# Altium integrated library Lattice CPLD ispMACH.IntLib: 663 symbols (part 29 of 48)
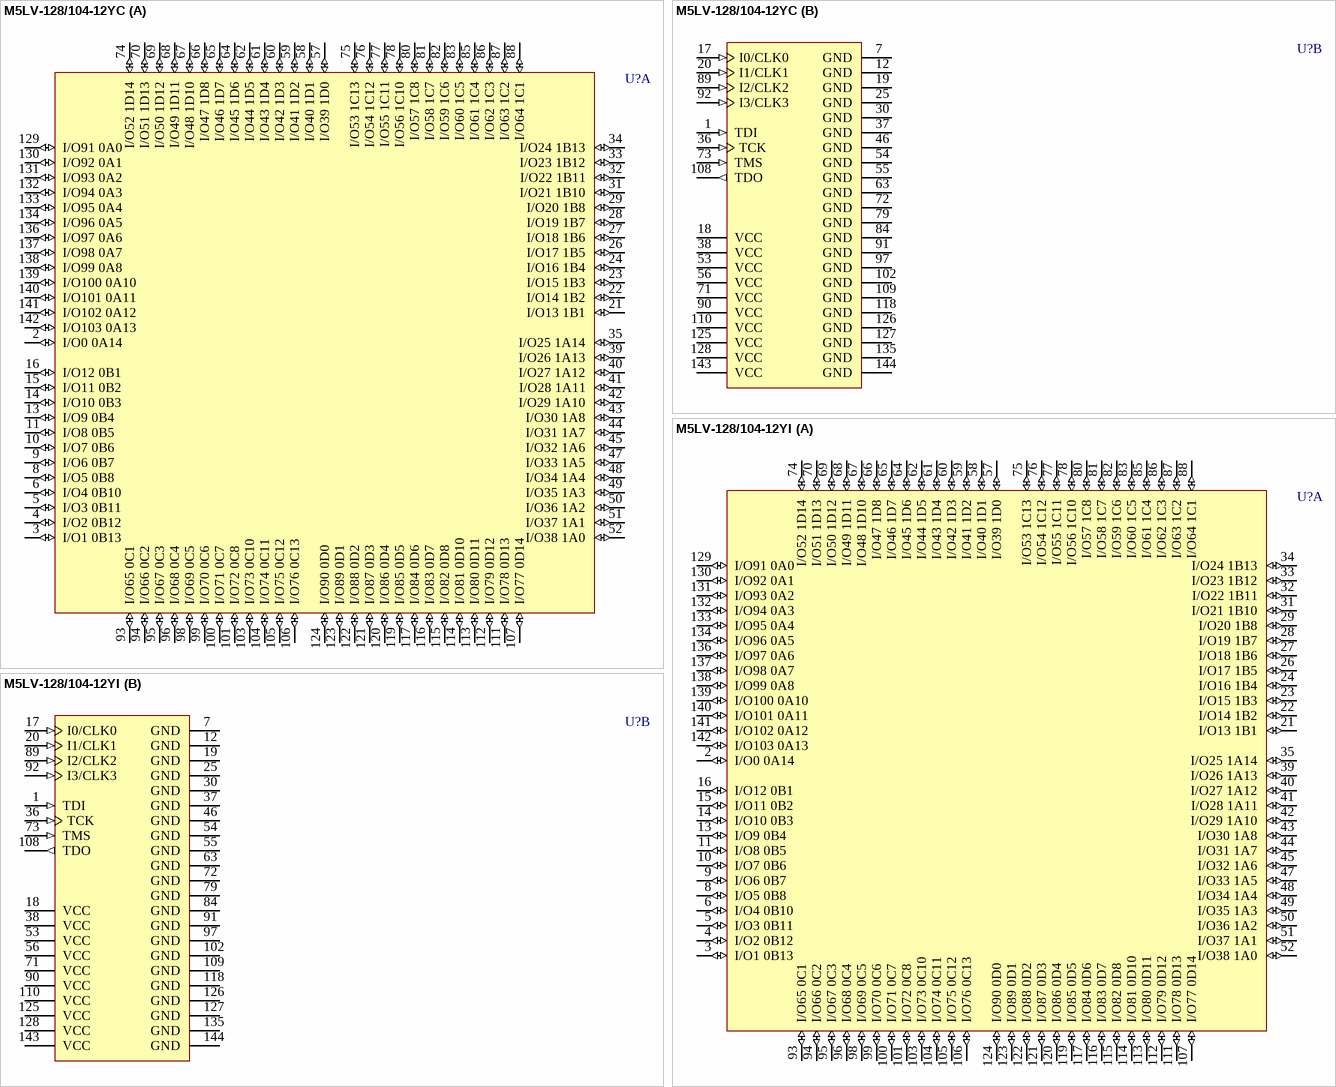
[diagram p334: symbols M5LV-128/104-12YC to M5LV-128/104-12YI]

## M5LV-128/104-12YI
designator U?
High-Density and High-I/O Complex PLD; Published: 23-Sep-2002; LatestRevisionDate: 13-Apr-2006; LatestRevisionNote: IPC-7351 Footprint Added.; DatasheetVersion: Sep-2000; PackageVersion: pkg_32, Aug-2005; PackageReference: PQFP144; Publisher: Altium Limited; PackageDescription: 144-Pin Quad Flat Pack 0.65 mm Pitch; Code_IPC: QFP65P3120X3120-144; ComponentLink1Description: Manufacturer Link; ComponentLink1URL: http://www.latticesemi.com/products/mature/index.cfm; ComponentLink2Description: Datasheet; ComponentLink2URL: http://www.latticesemi.com/lit/docs/datasheets/cpld/mach5.pdf
footprint PQFP144_N (QFP, 144-Leads, Body 28 x 28mm, Pitch 0.65mm, IPC Medium Density)
footprint PQFP144_L (QFP, 144-Leads, Body 28 x 28mm, Pitch 0.65mm, IPC High Density)
footprint PQFP144_M (QFP, 144-Leads, Body 28 x 28mm, Pitch 0.65mm, IPC Low Density)
3D model M5LV-PQFP144 (144-Pin Quad Flat Pack 0.65 mm Pitch)
part A pins: 2 I/O0 0A14 (io), 3 I/O1 0B13 (io), 4 I/O2 0B12 (io), 5 I/O3 0B11 (io), 6 I/O4 0B10 (io), 8 I/O5 0B8 (io), 9 I/O6 0B7 (io), 10 I/O7 0B6 (io), 11 I/O8 0B5 (io), 13 I/O9 0B4 (io), 14 I/O10 0B3 (io), 15 I/O11 0B2 (io), 16 I/O12 0B1 (io), 21 I/O13 1B1 (io), 22 I/O14 1B2 (io), 23 I/O15 1B3 (io), 24 I/O16 1B4 (io), 26 I/O17 1B5 (io), 27 I/O18 1B6 (io), 28 I/O19 1B7 (io), 29 I/O20 1B8 (io), 31 I/O21 1B10 (io), 32 I/O22 1B11 (io), 33 I/O23 1B12 (io), 34 I/O24 1B13 (io), 35 I/O25 1A14 (io), 39 I/O26 1A13 (io), 40 I/O27 1A12 (io), 41 I/O28 1A11 (io), 42 I/O29 1A10 (io), 43 I/O30 1A8 (io), 44 I/O31 1A7 (io), 45 I/O32 1A6 (io), 47 I/O33 1A5 (io), 48 I/O34 1A4 (io), 49 I/O35 1A3 (io), 50 I/O36 1A2 (io), 51 I/O37 1A1 (io), 52 I/O38 1A0 (io), 57 I/O39 1D0 (io), 58 I/O40 1D1 (io), 59 I/O41 1D2 (io), 60 I/O42 1D3 (io), 61 I/O43 1D4 (io), 62 I/O44 1D5 (io), 64 I/O45 1D6 (io), 65 I/O46 1D7 (io), 66 I/O47 1D8 (io), 67 I/O48 1D10 (io), 68 I/O49 1D11 (io), 69 I/O50 1D12 (io), 70 I/O51 1D13 (io), 74 I/O52 1D14 (io), 75 I/O53 1C13 (io), 76 I/O54 1C12 (io), 77 I/O55 1C11 (io), 78 I/O56 1C10 (io), 80 I/O57 1C8 (io), 81 I/O58 1C7 (io), 82 I/O59 1C6 (io), 83 I/O60 1C5 (io), 85 I/O61 1C4 (io), 86 I/O62 1C3 (io), 87 I/O63 1C2 (io), 88 I/O64 1C1 (io), 93 I/O65 0C1 (io), 94 I/O66 0C2 (io), 95 I/O67 0C3 (io), 96 I/O68 0C4 (io), 98 I/O69 0C5 (io), 99 I/O70 0C6 (io), 100 I/O71 0C7 (io), 101 I/O72 0C8 (io), 103 I/O73 0C10 (io), 104 I/O74 0C11 (io), 105 I/O75 0C12 (io), 106 I/O76 0C13 (io), 107 I/O77 0D14 (io), 111 I/O78 0D13 (io), 112 I/O79 0D12 (io), 113 I/O80 0D11 (io), 114 I/O81 0D10 (io), 115 I/O82 0D8 (io), 116 I/O83 0D7 (io), 117 I/O84 0D6 (io), 119 I/O85 0D5 (io), 120 I/O86 0D4 (io), 121 I/O87 0D3 (io), 122 I/O88 0D2 (io), 123 I/O89 0D1 (io), 124 I/O90 0D0 (io), 129 I/O91 0A0 (io), 130 I/O92 0A1 (io), 131 I/O93 0A2 (io), 132 I/O94 0A3 (io), 133 I/O95 0A4 (io), 134 I/O96 0A5 (io), 136 I/O97 0A6 (io), 137 I/O98 0A7 (io), 138 I/O99 0A8 (io), 139 I/O100 0A10 (io), 140 I/O101 0A11 (io), 141 I/O102 0A12 (io), 142 I/O103 0A13 (io)
part B pins: 1 TDI (in), 7 GND (power), 12 GND (power), 17 I0/CLK0 (in), 18 VCC (power), 19 GND (power), 20 I1/CLK1 (in), 25 GND (power), 30 GND (power), 36 TCK (in), 37 GND (power), 38 VCC (power), 46 GND (power), 53 VCC (power), 54 GND (power), 55 GND (power), 56 VCC (power), 63 GND (power), 71 VCC (power), 72 GND (power), 73 TMS (in), 79 GND (power), 84 GND (power), 89 I2/CLK2 (in), 90 VCC (power), 91 GND (power), 92 I3/CLK3 (in), 97 GND (power), 102 GND (power), 108 TDO (out), 109 GND (power), 110 VCC (power), 118 GND (power), 125 VCC (power), 126 GND (power), 127 GND (power), 128 VCC (power), 135 GND (power), 143 VCC (power), 144 GND (power)

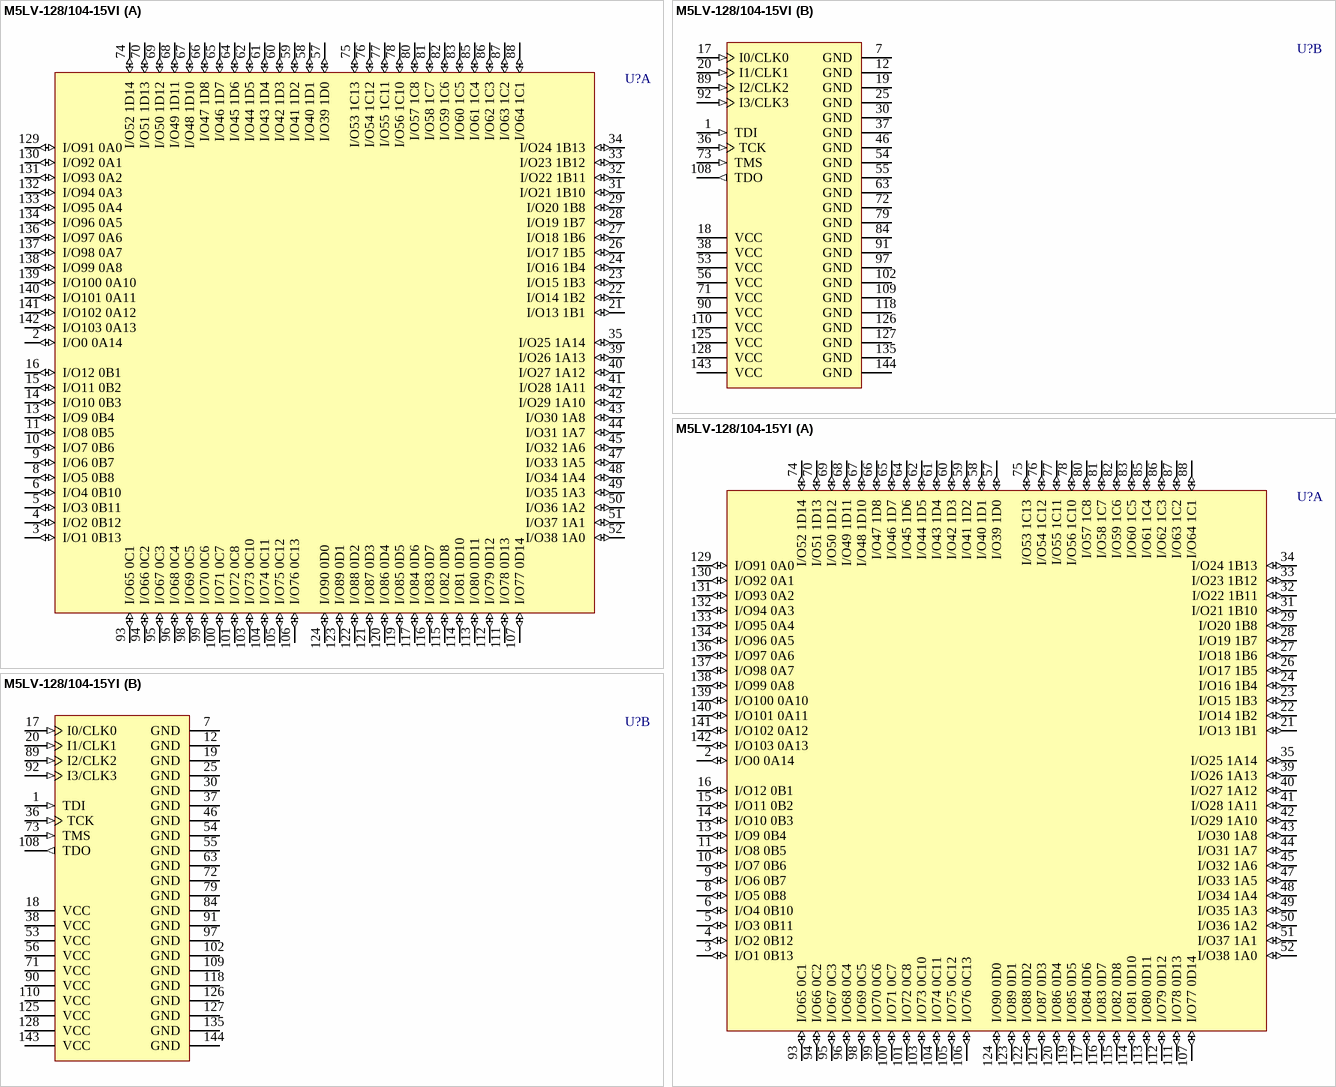
[diagram p168: symbols M5LV-128/104-15VI to M5LV-128/104-15YI]

## M5LV-128/104-15VI
designator U?
High-Density and High-I/O Complex PLD; Published: 23-Sep-2002; LatestRevisionDate: 13-Apr-2006; LatestRevisionNote: IPC-7351 Footprint Added.; DatasheetVersion: Sep-2000; PackageVersion: pkg_32, Aug-2005; PackageReference: TQFP144; Publisher: Altium Limited; PackageDescription: 144-Pin Thin Quad Flat Pack (TQFP144); Code_JEDEC: MS-026-BFB; ComponentLink1Description: Manufacturer Link; ComponentLink1URL: http://www.latticesemi.com/products/mature/index.cfm; ComponentLink2Description: Datasheet; ComponentLink2URL: http://www.latticesemi.com/lit/docs/datasheets/cpld/mach5.pdf
footprint TQFP144_N (Thin QFP, 144-Leads, Body 20x20mm, Pitch 0.5mm, IPC Medium Density)
footprint TQFP144_L (Thin QFP, 144-Leads, Body 20x20mm, Pitch 0.5mm, IPC High Density)
footprint TQFP144_M (Thin QFP, 144-Leads, Body 20x20mm, Pitch 0.5mm, IPC Low Density)
3D model M5LV-TQFP144 (144-Pin Thin Quad Flat Pack (TQFP144))
part A pins: 2 I/O0 0A14 (io), 3 I/O1 0B13 (io), 4 I/O2 0B12 (io), 5 I/O3 0B11 (io), 6 I/O4 0B10 (io), 8 I/O5 0B8 (io), 9 I/O6 0B7 (io), 10 I/O7 0B6 (io), 11 I/O8 0B5 (io), 13 I/O9 0B4 (io), 14 I/O10 0B3 (io), 15 I/O11 0B2 (io), 16 I/O12 0B1 (io), 21 I/O13 1B1 (io), 22 I/O14 1B2 (io), 23 I/O15 1B3 (io), 24 I/O16 1B4 (io), 26 I/O17 1B5 (io), 27 I/O18 1B6 (io), 28 I/O19 1B7 (io), 29 I/O20 1B8 (io), 31 I/O21 1B10 (io), 32 I/O22 1B11 (io), 33 I/O23 1B12 (io), 34 I/O24 1B13 (io), 35 I/O25 1A14 (io), 39 I/O26 1A13 (io), 40 I/O27 1A12 (io), 41 I/O28 1A11 (io), 42 I/O29 1A10 (io), 43 I/O30 1A8 (io), 44 I/O31 1A7 (io), 45 I/O32 1A6 (io), 47 I/O33 1A5 (io), 48 I/O34 1A4 (io), 49 I/O35 1A3 (io), 50 I/O36 1A2 (io), 51 I/O37 1A1 (io), 52 I/O38 1A0 (io), 57 I/O39 1D0 (io), 58 I/O40 1D1 (io), 59 I/O41 1D2 (io), 60 I/O42 1D3 (io), 61 I/O43 1D4 (io), 62 I/O44 1D5 (io), 64 I/O45 1D6 (io), 65 I/O46 1D7 (io), 66 I/O47 1D8 (io), 67 I/O48 1D10 (io), 68 I/O49 1D11 (io), 69 I/O50 1D12 (io), 70 I/O51 1D13 (io), 74 I/O52 1D14 (io), 75 I/O53 1C13 (io), 76 I/O54 1C12 (io), 77 I/O55 1C11 (io), 78 I/O56 1C10 (io), 80 I/O57 1C8 (io), 81 I/O58 1C7 (io), 82 I/O59 1C6 (io), 83 I/O60 1C5 (io), 85 I/O61 1C4 (io), 86 I/O62 1C3 (io), 87 I/O63 1C2 (io), 88 I/O64 1C1 (io), 93 I/O65 0C1 (io), 94 I/O66 0C2 (io), 95 I/O67 0C3 (io), 96 I/O68 0C4 (io), 98 I/O69 0C5 (io), 99 I/O70 0C6 (io), 100 I/O71 0C7 (io), 101 I/O72 0C8 (io), 103 I/O73 0C10 (io), 104 I/O74 0C11 (io), 105 I/O75 0C12 (io), 106 I/O76 0C13 (io), 107 I/O77 0D14 (io), 111 I/O78 0D13 (io), 112 I/O79 0D12 (io), 113 I/O80 0D11 (io), 114 I/O81 0D10 (io), 115 I/O82 0D8 (io), 116 I/O83 0D7 (io), 117 I/O84 0D6 (io), 119 I/O85 0D5 (io), 120 I/O86 0D4 (io), 121 I/O87 0D3 (io), 122 I/O88 0D2 (io), 123 I/O89 0D1 (io), 124 I/O90 0D0 (io), 129 I/O91 0A0 (io), 130 I/O92 0A1 (io), 131 I/O93 0A2 (io), 132 I/O94 0A3 (io), 133 I/O95 0A4 (io), 134 I/O96 0A5 (io), 136 I/O97 0A6 (io), 137 I/O98 0A7 (io), 138 I/O99 0A8 (io), 139 I/O100 0A10 (io), 140 I/O101 0A11 (io), 141 I/O102 0A12 (io), 142 I/O103 0A13 (io)
part B pins: 1 TDI (in), 7 GND (power), 12 GND (power), 17 I0/CLK0 (in), 18 VCC (power), 19 GND (power), 20 I1/CLK1 (in), 25 GND (power), 30 GND (power), 36 TCK (in), 37 GND (power), 38 VCC (power), 46 GND (power), 53 VCC (power), 54 GND (power), 55 GND (power), 56 VCC (power), 63 GND (power), 71 VCC (power), 72 GND (power), 73 TMS (in), 79 GND (power), 84 GND (power), 89 I2/CLK2 (in), 90 VCC (power), 91 GND (power), 92 I3/CLK3 (in), 97 GND (power), 102 GND (power), 108 TDO (out), 109 GND (power), 110 VCC (power), 118 GND (power), 125 VCC (power), 126 GND (power), 127 GND (power), 128 VCC (power), 135 GND (power), 143 VCC (power), 144 GND (power)

## M5LV-128/104-15YI
designator U?
High-Density and High-I/O Complex PLD; Published: 23-Sep-2002; LatestRevisionDate: 13-Apr-2006; LatestRevisionNote: IPC-7351 Footprint Added.; DatasheetVersion: Sep-2000; PackageVersion: pkg_32, Aug-2005; PackageReference: PQFP144; Publisher: Altium Limited; PackageDescription: 144-Pin Quad Flat Pack 0.65 mm Pitch; Code_IPC: QFP65P3120X3120-144; ComponentLink1Description: Manufacturer Link; ComponentLink1URL: http://www.latticesemi.com/products/mature/index.cfm; ComponentLink2Description: Datasheet; ComponentLink2URL: http://www.latticesemi.com/lit/docs/datasheets/cpld/mach5.pdf
footprint PQFP144_N (QFP, 144-Leads, Body 28 x 28mm, Pitch 0.65mm, IPC Medium Density)
footprint PQFP144_L (QFP, 144-Leads, Body 28 x 28mm, Pitch 0.65mm, IPC High Density)
footprint PQFP144_M (QFP, 144-Leads, Body 28 x 28mm, Pitch 0.65mm, IPC Low Density)
3D model M5LV-PQFP144 (144-Pin Quad Flat Pack 0.65 mm Pitch)
part A pins: 2 I/O0 0A14 (io), 3 I/O1 0B13 (io), 4 I/O2 0B12 (io), 5 I/O3 0B11 (io), 6 I/O4 0B10 (io), 8 I/O5 0B8 (io), 9 I/O6 0B7 (io), 10 I/O7 0B6 (io), 11 I/O8 0B5 (io), 13 I/O9 0B4 (io), 14 I/O10 0B3 (io), 15 I/O11 0B2 (io), 16 I/O12 0B1 (io), 21 I/O13 1B1 (io), 22 I/O14 1B2 (io), 23 I/O15 1B3 (io), 24 I/O16 1B4 (io), 26 I/O17 1B5 (io), 27 I/O18 1B6 (io), 28 I/O19 1B7 (io), 29 I/O20 1B8 (io), 31 I/O21 1B10 (io), 32 I/O22 1B11 (io), 33 I/O23 1B12 (io), 34 I/O24 1B13 (io), 35 I/O25 1A14 (io), 39 I/O26 1A13 (io), 40 I/O27 1A12 (io), 41 I/O28 1A11 (io), 42 I/O29 1A10 (io), 43 I/O30 1A8 (io), 44 I/O31 1A7 (io), 45 I/O32 1A6 (io), 47 I/O33 1A5 (io), 48 I/O34 1A4 (io), 49 I/O35 1A3 (io), 50 I/O36 1A2 (io), 51 I/O37 1A1 (io), 52 I/O38 1A0 (io), 57 I/O39 1D0 (io), 58 I/O40 1D1 (io), 59 I/O41 1D2 (io), 60 I/O42 1D3 (io), 61 I/O43 1D4 (io), 62 I/O44 1D5 (io), 64 I/O45 1D6 (io), 65 I/O46 1D7 (io), 66 I/O47 1D8 (io), 67 I/O48 1D10 (io), 68 I/O49 1D11 (io), 69 I/O50 1D12 (io), 70 I/O51 1D13 (io), 74 I/O52 1D14 (io), 75 I/O53 1C13 (io), 76 I/O54 1C12 (io), 77 I/O55 1C11 (io), 78 I/O56 1C10 (io), 80 I/O57 1C8 (io), 81 I/O58 1C7 (io), 82 I/O59 1C6 (io), 83 I/O60 1C5 (io), 85 I/O61 1C4 (io), 86 I/O62 1C3 (io), 87 I/O63 1C2 (io), 88 I/O64 1C1 (io), 93 I/O65 0C1 (io), 94 I/O66 0C2 (io), 95 I/O67 0C3 (io), 96 I/O68 0C4 (io), 98 I/O69 0C5 (io), 99 I/O70 0C6 (io), 100 I/O71 0C7 (io), 101 I/O72 0C8 (io), 103 I/O73 0C10 (io), 104 I/O74 0C11 (io), 105 I/O75 0C12 (io), 106 I/O76 0C13 (io), 107 I/O77 0D14 (io), 111 I/O78 0D13 (io), 112 I/O79 0D12 (io), 113 I/O80 0D11 (io), 114 I/O81 0D10 (io), 115 I/O82 0D8 (io), 116 I/O83 0D7 (io), 117 I/O84 0D6 (io), 119 I/O85 0D5 (io), 120 I/O86 0D4 (io), 121 I/O87 0D3 (io), 122 I/O88 0D2 (io), 123 I/O89 0D1 (io), 124 I/O90 0D0 (io), 129 I/O91 0A0 (io), 130 I/O92 0A1 (io), 131 I/O93 0A2 (io), 132 I/O94 0A3 (io), 133 I/O95 0A4 (io), 134 I/O96 0A5 (io), 136 I/O97 0A6 (io), 137 I/O98 0A7 (io), 138 I/O99 0A8 (io), 139 I/O100 0A10 (io), 140 I/O101 0A11 (io), 141 I/O102 0A12 (io), 142 I/O103 0A13 (io)
part B pins: 1 TDI (in), 7 GND (power), 12 GND (power), 17 I0/CLK0 (in), 18 VCC (power), 19 GND (power), 20 I1/CLK1 (in), 25 GND (power), 30 GND (power), 36 TCK (in), 37 GND (power), 38 VCC (power), 46 GND (power), 53 VCC (power), 54 GND (power), 55 GND (power), 56 VCC (power), 63 GND (power), 71 VCC (power), 72 GND (power), 73 TMS (in), 79 GND (power), 84 GND (power), 89 I2/CLK2 (in), 90 VCC (power), 91 GND (power), 92 I3/CLK3 (in), 97 GND (power), 102 GND (power), 108 TDO (out), 109 GND (power), 110 VCC (power), 118 GND (power), 125 VCC (power), 126 GND (power), 127 GND (power), 128 VCC (power), 135 GND (power), 143 VCC (power), 144 GND (power)

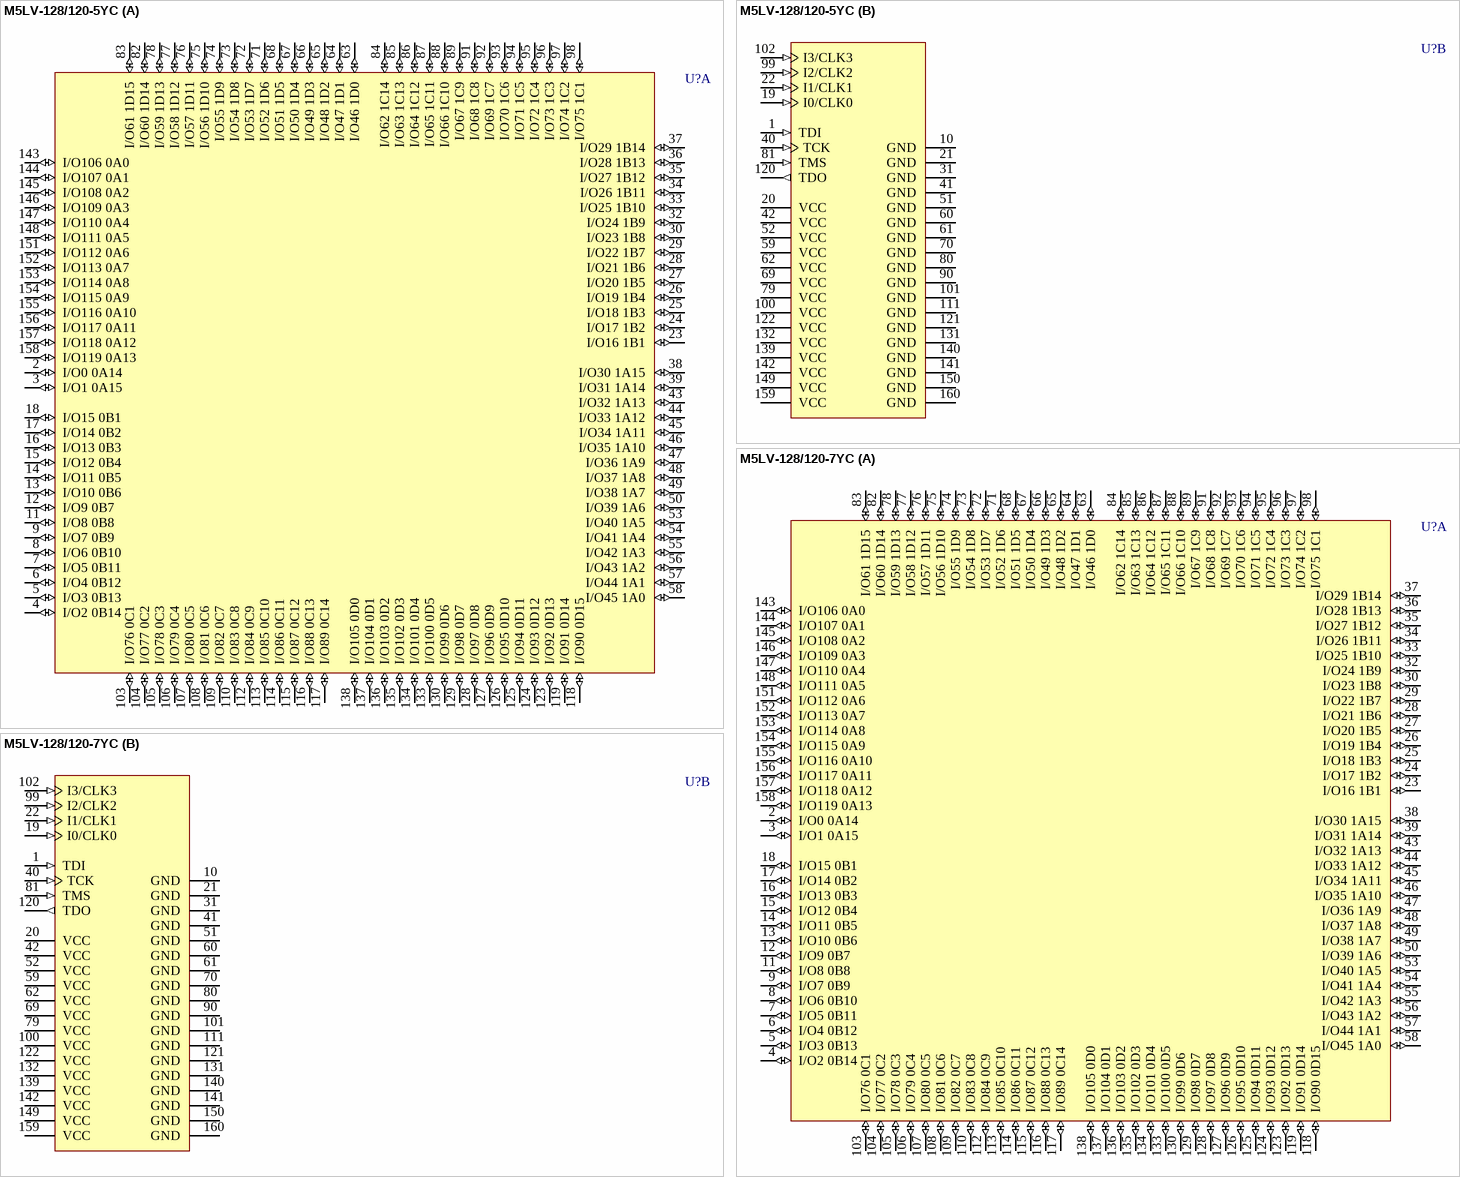
[diagram p169: symbols M5LV-128/120-5YC to M5LV-128/120-7YC]

## M5LV-128/120-5YC
designator U?
High-Density and High-I/O Complex PLD; Published: 23-Sep-2002; LatestRevisionDate: 13-Apr-2006; LatestRevisionNote: IPC-7351 Footprint Added.; DatasheetVersion: Sep-2000; PackageVersion: pkg_32, Aug-2005; PackageReference: PQFP160; Publisher: Altium Limited; PackageDescription: 160-Pin Quad Flat Pack 0.65 mm Pitch; Code_IPC: QFP65P3120X3120-160; ComponentLink1Description: Manufacturer Link; ComponentLink1URL: http://www.latticesemi.com/products/mature/index.cfm; ComponentLink2Description: Datasheet; ComponentLink2URL: http://www.latticesemi.com/lit/docs/datasheets/cpld/mach5.pdf
footprint PQFP160_N (QFP, 160-Leads, Body 28 x 28mm, Pitch 0.65mm, IPC Medium Density)
footprint PQFP160_L (QFP, 160-Leads, Body 28 x 28mm, Pitch 0.65mm, IPC High Density)
footprint PQFP160_M (QFP, 160-Leads, Body 28 x 28mm, Pitch 0.65mm, IPC Low Density)
3D model M5LV-PQFP160 (160-Pin Quad Flat Pack 0.65 mm Pitch)
part A pins: 2 I/O0 0A14 (io), 3 I/O1 0A15 (io), 4 I/O2 0B14 (io), 5 I/O3 0B13 (io), 6 I/O4 0B12 (io), 7 I/O5 0B11 (io), 8 I/O6 0B10 (io), 9 I/O7 0B9 (io), 11 I/O8 0B8 (io), 12 I/O9 0B7 (io), 13 I/O10 0B6 (io), 14 I/O11 0B5 (io), 15 I/O12 0B4 (io), 16 I/O13 0B3 (io), 17 I/O14 0B2 (io), 18 I/O15 0B1 (io), 23 I/O16 1B1 (io), 24 I/O17 1B2 (io), 25 I/O18 1B3 (io), 26 I/O19 1B4 (io), 27 I/O20 1B5 (io), 28 I/O21 1B6 (io), 29 I/O22 1B7 (io), 30 I/O23 1B8 (io), 32 I/O24 1B9 (io), 33 I/O25 1B10 (io), 34 I/O26 1B11 (io), 35 I/O27 1B12 (io), 36 I/O28 1B13 (io), 37 I/O29 1B14 (io), 38 I/O30 1A15 (io), 39 I/O31 1A14 (io), 43 I/O32 1A13 (io), 44 I/O33 1A12 (io), 45 I/O34 1A11 (io), 46 I/O35 1A10 (io), 47 I/O36 1A9 (io), 48 I/O37 1A8 (io), 49 I/O38 1A7 (io), 50 I/O39 1A6 (io), 53 I/O40 1A5 (io), 54 I/O41 1A4 (io), 55 I/O42 1A3 (io), 56 I/O43 1A2 (io), 57 I/O44 1A1 (io), 58 I/O45 1A0 (io), 63 I/O46 1D0 (io), 64 I/O47 1D1 (io), 65 I/O48 1D2 (io), 66 I/O49 1D3 (io), 67 I/O50 1D4 (io), 68 I/O51 1D5 (io), 71 I/O52 1D6 (io), 72 I/O53 1D7 (io), 73 I/O54 1D8 (io), 74 I/O55 1D9 (io), 75 I/O56 1D10 (io), 76 I/O57 1D11 (io), 77 I/O58 1D12 (io), 78 I/O59 1D13 (io), 82 I/O60 1D14 (io), 83 I/O61 1D15 (io), 84 I/O62 1C14 (io), 85 I/O63 1C13 (io), 86 I/O64 1C12 (io), 87 I/O65 1C11 (io), 88 I/O66 1C10 (io), 89 I/O67 1C9 (io), 91 I/O68 1C8 (io), 92 I/O69 1C7 (io), 93 I/O70 1C6 (io), 94 I/O71 1C5 (io), 95 I/O72 1C4 (io), 96 I/O73 1C3 (io), 97 I/O74 1C2 (io), 98 I/O75 1C1 (io), 103 I/O76 0C1 (io), 104 I/O77 0C2 (io), 105 I/O78 0C3 (io), 106 I/O79 0C4 (io), 107 I/O80 0C5 (io), 108 I/O81 0C6 (io), 109 I/O82 0C7 (io), 110 I/O83 0C8 (io), 112 I/O84 0C9 (io), 113 I/O85 0C10 (io), 114 I/O86 0C11 (io), 115 I/O87 0C12 (io), 116 I/O88 0C13 (io), 117 I/O89 0C14 (io), 118 I/O90 0D15 (io), 119 I/O91 0D14 (io), 123 I/O92 0D13 (io), 124 I/O93 0D12 (io), 125 I/O94 0D11 (io), 126 I/O95 0D10 (io), 127 I/O96 0D9 (io), 128 I/O97 0D8 (io), 129 I/O98 0D7 (io), 130 I/O99 0D6 (io), 133 I/O100 0D5 (io), 134 I/O101 0D4 (io), 135 I/O102 0D3 (io), 136 I/O103 0D2 (io), 137 I/O104 0D1 (io), 138 I/O105 0D0 (io), 143 I/O106 0A0 (io), 144 I/O107 0A1 (io), 145 I/O108 0A2 (io), 146 I/O109 0A3 (io), 147 I/O110 0A4 (io), 148 I/O111 0A5 (io), 151 I/O112 0A6 (io), 152 I/O113 0A7 (io), 153 I/O114 0A8 (io), 154 I/O115 0A9 (io), 155 I/O116 0A10 (io), 156 I/O117 0A11 (io), 157 I/O118 0A12 (io), 158 I/O119 0A13 (io)
part B pins: 1 TDI (in), 10 GND (power), 19 I0/CLK0 (in), 20 VCC (power), 21 GND (power), 22 I1/CLK1 (in), 31 GND (power), 40 TCK (in), 41 GND (power), 42 VCC (power), 51 GND (power), 52 VCC (power), 59 VCC (power), 60 GND (power), 61 GND (power), 62 VCC (power), 69 VCC (power), 70 GND (power), 79 VCC (power), 80 GND (power), 81 TMS (in), 90 GND (power), 99 I2/CLK2 (in), 100 VCC (power), 101 GND (power), 102 I3/CLK3 (in), 111 GND (power), 120 TDO (out), 121 GND (power), 122 VCC (power), 131 GND (power), 132 VCC (power), 139 VCC (power), 140 GND (power), 141 GND (power), 142 VCC (power), 149 VCC (power), 150 GND (power), 159 VCC (power), 160 GND (power)

## M5LV-128/120-7YC
designator U?
High-Density and High-I/O Complex PLD; Published: 23-Sep-2002; LatestRevisionDate: 13-Apr-2006; LatestRevisionNote: IPC-7351 Footprint Added.; DatasheetVersion: Sep-2000; PackageVersion: pkg_32, Aug-2005; PackageReference: PQFP160; Publisher: Altium Limited; PackageDescription: 160-Pin Quad Flat Pack 0.65 mm Pitch; Code_IPC: QFP65P3120X3120-160; ComponentLink1Description: Manufacturer Link; ComponentLink1URL: http://www.latticesemi.com/products/mature/index.cfm; ComponentLink2Description: Datasheet; ComponentLink2URL: http://www.latticesemi.com/lit/docs/datasheets/cpld/mach5.pdf
footprint PQFP160_N (QFP, 160-Leads, Body 28 x 28mm, Pitch 0.65mm, IPC Medium Density)
footprint PQFP160_L (QFP, 160-Leads, Body 28 x 28mm, Pitch 0.65mm, IPC High Density)
footprint PQFP160_M (QFP, 160-Leads, Body 28 x 28mm, Pitch 0.65mm, IPC Low Density)
3D model M5LV-PQFP160 (160-Pin Quad Flat Pack 0.65 mm Pitch)
part A pins: 2 I/O0 0A14 (io), 3 I/O1 0A15 (io), 4 I/O2 0B14 (io), 5 I/O3 0B13 (io), 6 I/O4 0B12 (io), 7 I/O5 0B11 (io), 8 I/O6 0B10 (io), 9 I/O7 0B9 (io), 11 I/O8 0B8 (io), 12 I/O9 0B7 (io), 13 I/O10 0B6 (io), 14 I/O11 0B5 (io), 15 I/O12 0B4 (io), 16 I/O13 0B3 (io), 17 I/O14 0B2 (io), 18 I/O15 0B1 (io), 23 I/O16 1B1 (io), 24 I/O17 1B2 (io), 25 I/O18 1B3 (io), 26 I/O19 1B4 (io), 27 I/O20 1B5 (io), 28 I/O21 1B6 (io), 29 I/O22 1B7 (io), 30 I/O23 1B8 (io), 32 I/O24 1B9 (io), 33 I/O25 1B10 (io), 34 I/O26 1B11 (io), 35 I/O27 1B12 (io), 36 I/O28 1B13 (io), 37 I/O29 1B14 (io), 38 I/O30 1A15 (io), 39 I/O31 1A14 (io), 43 I/O32 1A13 (io), 44 I/O33 1A12 (io), 45 I/O34 1A11 (io), 46 I/O35 1A10 (io), 47 I/O36 1A9 (io), 48 I/O37 1A8 (io), 49 I/O38 1A7 (io), 50 I/O39 1A6 (io), 53 I/O40 1A5 (io), 54 I/O41 1A4 (io), 55 I/O42 1A3 (io), 56 I/O43 1A2 (io), 57 I/O44 1A1 (io), 58 I/O45 1A0 (io), 63 I/O46 1D0 (io), 64 I/O47 1D1 (io), 65 I/O48 1D2 (io), 66 I/O49 1D3 (io), 67 I/O50 1D4 (io), 68 I/O51 1D5 (io), 71 I/O52 1D6 (io), 72 I/O53 1D7 (io), 73 I/O54 1D8 (io), 74 I/O55 1D9 (io), 75 I/O56 1D10 (io), 76 I/O57 1D11 (io), 77 I/O58 1D12 (io), 78 I/O59 1D13 (io), 82 I/O60 1D14 (io), 83 I/O61 1D15 (io), 84 I/O62 1C14 (io), 85 I/O63 1C13 (io), 86 I/O64 1C12 (io), 87 I/O65 1C11 (io), 88 I/O66 1C10 (io), 89 I/O67 1C9 (io), 91 I/O68 1C8 (io), 92 I/O69 1C7 (io), 93 I/O70 1C6 (io), 94 I/O71 1C5 (io), 95 I/O72 1C4 (io), 96 I/O73 1C3 (io), 97 I/O74 1C2 (io), 98 I/O75 1C1 (io), 103 I/O76 0C1 (io), 104 I/O77 0C2 (io), 105 I/O78 0C3 (io), 106 I/O79 0C4 (io), 107 I/O80 0C5 (io), 108 I/O81 0C6 (io), 109 I/O82 0C7 (io), 110 I/O83 0C8 (io), 112 I/O84 0C9 (io), 113 I/O85 0C10 (io), 114 I/O86 0C11 (io), 115 I/O87 0C12 (io), 116 I/O88 0C13 (io), 117 I/O89 0C14 (io), 118 I/O90 0D15 (io), 119 I/O91 0D14 (io), 123 I/O92 0D13 (io), 124 I/O93 0D12 (io), 125 I/O94 0D11 (io), 126 I/O95 0D10 (io), 127 I/O96 0D9 (io), 128 I/O97 0D8 (io), 129 I/O98 0D7 (io), 130 I/O99 0D6 (io), 133 I/O100 0D5 (io), 134 I/O101 0D4 (io), 135 I/O102 0D3 (io), 136 I/O103 0D2 (io), 137 I/O104 0D1 (io), 138 I/O105 0D0 (io), 143 I/O106 0A0 (io), 144 I/O107 0A1 (io), 145 I/O108 0A2 (io), 146 I/O109 0A3 (io), 147 I/O110 0A4 (io), 148 I/O111 0A5 (io), 151 I/O112 0A6 (io), 152 I/O113 0A7 (io), 153 I/O114 0A8 (io), 154 I/O115 0A9 (io), 155 I/O116 0A10 (io), 156 I/O117 0A11 (io), 157 I/O118 0A12 (io), 158 I/O119 0A13 (io)
part B pins: 1 TDI (in), 10 GND (power), 19 I0/CLK0 (in), 20 VCC (power), 21 GND (power), 22 I1/CLK1 (in), 31 GND (power), 40 TCK (in), 41 GND (power), 42 VCC (power), 51 GND (power), 52 VCC (power), 59 VCC (power), 60 GND (power), 61 GND (power), 62 VCC (power), 69 VCC (power), 70 GND (power), 79 VCC (power), 80 GND (power), 81 TMS (in), 90 GND (power), 99 I2/CLK2 (in), 100 VCC (power), 101 GND (power), 102 I3/CLK3 (in), 111 GND (power), 120 TDO (out), 121 GND (power), 122 VCC (power), 131 GND (power), 132 VCC (power), 139 VCC (power), 140 GND (power), 141 GND (power), 142 VCC (power), 149 VCC (power), 150 GND (power), 159 VCC (power), 160 GND (power)

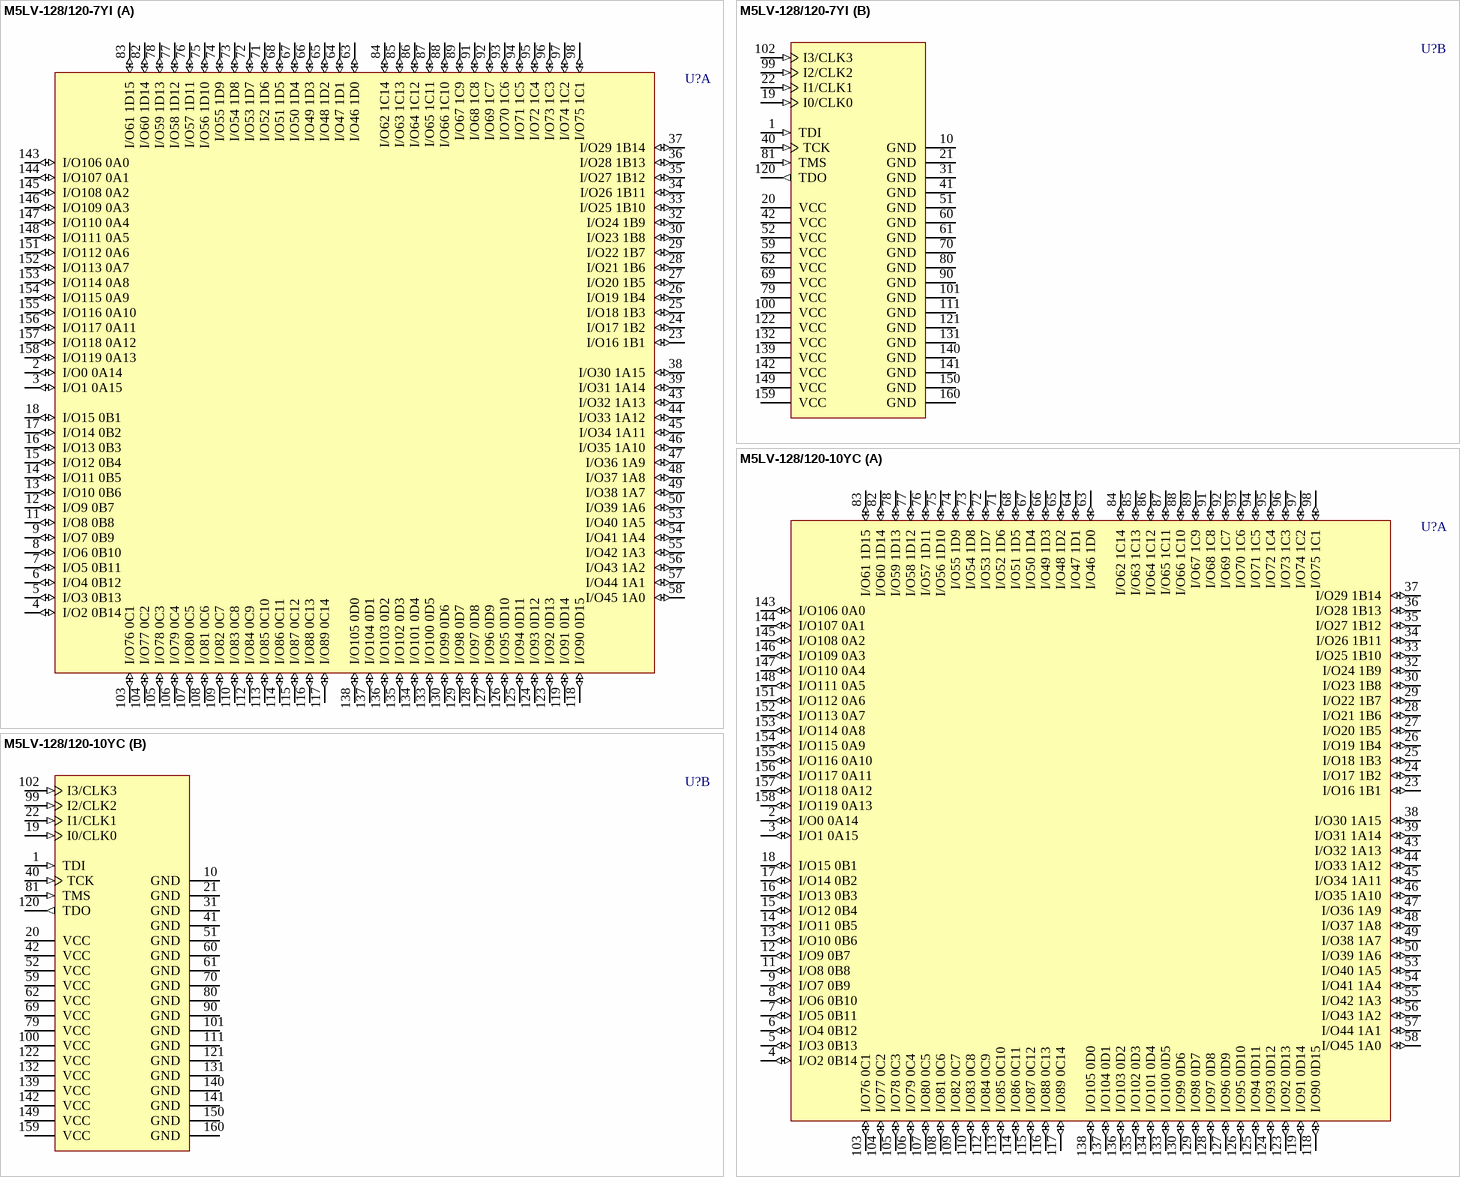
[diagram p170: symbols M5LV-128/120-7YI to M5LV-128/120-10YC]

## M5LV-128/120-7YI
designator U?
High-Density and High-I/O Complex PLD; Published: 23-Sep-2002; LatestRevisionDate: 13-Apr-2006; LatestRevisionNote: IPC-7351 Footprint Added.; DatasheetVersion: Sep-2000; PackageVersion: pkg_32, Aug-2005; PackageReference: PQFP160; Publisher: Altium Limited; PackageDescription: 160-Pin Quad Flat Pack 0.65 mm Pitch; Code_IPC: QFP65P3120X3120-160; ComponentLink1Description: Manufacturer Link; ComponentLink1URL: http://www.latticesemi.com/products/mature/index.cfm; ComponentLink2Description: Datasheet; ComponentLink2URL: http://www.latticesemi.com/lit/docs/datasheets/cpld/mach5.pdf
footprint PQFP160_N (QFP, 160-Leads, Body 28 x 28mm, Pitch 0.65mm, IPC Medium Density)
footprint PQFP160_L (QFP, 160-Leads, Body 28 x 28mm, Pitch 0.65mm, IPC High Density)
footprint PQFP160_M (QFP, 160-Leads, Body 28 x 28mm, Pitch 0.65mm, IPC Low Density)
3D model M5LV-PQFP160 (160-Pin Quad Flat Pack 0.65 mm Pitch)
part A pins: 2 I/O0 0A14 (io), 3 I/O1 0A15 (io), 4 I/O2 0B14 (io), 5 I/O3 0B13 (io), 6 I/O4 0B12 (io), 7 I/O5 0B11 (io), 8 I/O6 0B10 (io), 9 I/O7 0B9 (io), 11 I/O8 0B8 (io), 12 I/O9 0B7 (io), 13 I/O10 0B6 (io), 14 I/O11 0B5 (io), 15 I/O12 0B4 (io), 16 I/O13 0B3 (io), 17 I/O14 0B2 (io), 18 I/O15 0B1 (io), 23 I/O16 1B1 (io), 24 I/O17 1B2 (io), 25 I/O18 1B3 (io), 26 I/O19 1B4 (io), 27 I/O20 1B5 (io), 28 I/O21 1B6 (io), 29 I/O22 1B7 (io), 30 I/O23 1B8 (io), 32 I/O24 1B9 (io), 33 I/O25 1B10 (io), 34 I/O26 1B11 (io), 35 I/O27 1B12 (io), 36 I/O28 1B13 (io), 37 I/O29 1B14 (io), 38 I/O30 1A15 (io), 39 I/O31 1A14 (io), 43 I/O32 1A13 (io), 44 I/O33 1A12 (io), 45 I/O34 1A11 (io), 46 I/O35 1A10 (io), 47 I/O36 1A9 (io), 48 I/O37 1A8 (io), 49 I/O38 1A7 (io), 50 I/O39 1A6 (io), 53 I/O40 1A5 (io), 54 I/O41 1A4 (io), 55 I/O42 1A3 (io), 56 I/O43 1A2 (io), 57 I/O44 1A1 (io), 58 I/O45 1A0 (io), 63 I/O46 1D0 (io), 64 I/O47 1D1 (io), 65 I/O48 1D2 (io), 66 I/O49 1D3 (io), 67 I/O50 1D4 (io), 68 I/O51 1D5 (io), 71 I/O52 1D6 (io), 72 I/O53 1D7 (io), 73 I/O54 1D8 (io), 74 I/O55 1D9 (io), 75 I/O56 1D10 (io), 76 I/O57 1D11 (io), 77 I/O58 1D12 (io), 78 I/O59 1D13 (io), 82 I/O60 1D14 (io), 83 I/O61 1D15 (io), 84 I/O62 1C14 (io), 85 I/O63 1C13 (io), 86 I/O64 1C12 (io), 87 I/O65 1C11 (io), 88 I/O66 1C10 (io), 89 I/O67 1C9 (io), 91 I/O68 1C8 (io), 92 I/O69 1C7 (io), 93 I/O70 1C6 (io), 94 I/O71 1C5 (io), 95 I/O72 1C4 (io), 96 I/O73 1C3 (io), 97 I/O74 1C2 (io), 98 I/O75 1C1 (io), 103 I/O76 0C1 (io), 104 I/O77 0C2 (io), 105 I/O78 0C3 (io), 106 I/O79 0C4 (io), 107 I/O80 0C5 (io), 108 I/O81 0C6 (io), 109 I/O82 0C7 (io), 110 I/O83 0C8 (io), 112 I/O84 0C9 (io), 113 I/O85 0C10 (io), 114 I/O86 0C11 (io), 115 I/O87 0C12 (io), 116 I/O88 0C13 (io), 117 I/O89 0C14 (io), 118 I/O90 0D15 (io), 119 I/O91 0D14 (io), 123 I/O92 0D13 (io), 124 I/O93 0D12 (io), 125 I/O94 0D11 (io), 126 I/O95 0D10 (io), 127 I/O96 0D9 (io), 128 I/O97 0D8 (io), 129 I/O98 0D7 (io), 130 I/O99 0D6 (io), 133 I/O100 0D5 (io), 134 I/O101 0D4 (io), 135 I/O102 0D3 (io), 136 I/O103 0D2 (io), 137 I/O104 0D1 (io), 138 I/O105 0D0 (io), 143 I/O106 0A0 (io), 144 I/O107 0A1 (io), 145 I/O108 0A2 (io), 146 I/O109 0A3 (io), 147 I/O110 0A4 (io), 148 I/O111 0A5 (io), 151 I/O112 0A6 (io), 152 I/O113 0A7 (io), 153 I/O114 0A8 (io), 154 I/O115 0A9 (io), 155 I/O116 0A10 (io), 156 I/O117 0A11 (io), 157 I/O118 0A12 (io), 158 I/O119 0A13 (io)
part B pins: 1 TDI (in), 10 GND (power), 19 I0/CLK0 (in), 20 VCC (power), 21 GND (power), 22 I1/CLK1 (in), 31 GND (power), 40 TCK (in), 41 GND (power), 42 VCC (power), 51 GND (power), 52 VCC (power), 59 VCC (power), 60 GND (power), 61 GND (power), 62 VCC (power), 69 VCC (power), 70 GND (power), 79 VCC (power), 80 GND (power), 81 TMS (in), 90 GND (power), 99 I2/CLK2 (in), 100 VCC (power), 101 GND (power), 102 I3/CLK3 (in), 111 GND (power), 120 TDO (out), 121 GND (power), 122 VCC (power), 131 GND (power), 132 VCC (power), 139 VCC (power), 140 GND (power), 141 GND (power), 142 VCC (power), 149 VCC (power), 150 GND (power), 159 VCC (power), 160 GND (power)

## M5LV-128/120-10YC
designator U?
High-Density and High-I/O Complex PLD; Published: 23-Sep-2002; LatestRevisionDate: 13-Apr-2006; LatestRevisionNote: IPC-7351 Footprint Added.; DatasheetVersion: Sep-2000; PackageVersion: pkg_32, Aug-2005; PackageReference: PQFP160; Publisher: Altium Limited; PackageDescription: 160-Pin Quad Flat Pack 0.65 mm Pitch; Code_IPC: QFP65P3120X3120-160; ComponentLink1Description: Manufacturer Link; ComponentLink1URL: http://www.latticesemi.com/products/mature/index.cfm; ComponentLink2Description: Datasheet; ComponentLink2URL: http://www.latticesemi.com/lit/docs/datasheets/cpld/mach5.pdf
footprint PQFP160_N (QFP, 160-Leads, Body 28 x 28mm, Pitch 0.65mm, IPC Medium Density)
footprint PQFP160_L (QFP, 160-Leads, Body 28 x 28mm, Pitch 0.65mm, IPC High Density)
footprint PQFP160_M (QFP, 160-Leads, Body 28 x 28mm, Pitch 0.65mm, IPC Low Density)
3D model M5LV-PQFP160 (160-Pin Quad Flat Pack 0.65 mm Pitch)
part A pins: 2 I/O0 0A14 (io), 3 I/O1 0A15 (io), 4 I/O2 0B14 (io), 5 I/O3 0B13 (io), 6 I/O4 0B12 (io), 7 I/O5 0B11 (io), 8 I/O6 0B10 (io), 9 I/O7 0B9 (io), 11 I/O8 0B8 (io), 12 I/O9 0B7 (io), 13 I/O10 0B6 (io), 14 I/O11 0B5 (io), 15 I/O12 0B4 (io), 16 I/O13 0B3 (io), 17 I/O14 0B2 (io), 18 I/O15 0B1 (io), 23 I/O16 1B1 (io), 24 I/O17 1B2 (io), 25 I/O18 1B3 (io), 26 I/O19 1B4 (io), 27 I/O20 1B5 (io), 28 I/O21 1B6 (io), 29 I/O22 1B7 (io), 30 I/O23 1B8 (io), 32 I/O24 1B9 (io), 33 I/O25 1B10 (io), 34 I/O26 1B11 (io), 35 I/O27 1B12 (io), 36 I/O28 1B13 (io), 37 I/O29 1B14 (io), 38 I/O30 1A15 (io), 39 I/O31 1A14 (io), 43 I/O32 1A13 (io), 44 I/O33 1A12 (io), 45 I/O34 1A11 (io), 46 I/O35 1A10 (io), 47 I/O36 1A9 (io), 48 I/O37 1A8 (io), 49 I/O38 1A7 (io), 50 I/O39 1A6 (io), 53 I/O40 1A5 (io), 54 I/O41 1A4 (io), 55 I/O42 1A3 (io), 56 I/O43 1A2 (io), 57 I/O44 1A1 (io), 58 I/O45 1A0 (io), 63 I/O46 1D0 (io), 64 I/O47 1D1 (io), 65 I/O48 1D2 (io), 66 I/O49 1D3 (io), 67 I/O50 1D4 (io), 68 I/O51 1D5 (io), 71 I/O52 1D6 (io), 72 I/O53 1D7 (io), 73 I/O54 1D8 (io), 74 I/O55 1D9 (io), 75 I/O56 1D10 (io), 76 I/O57 1D11 (io), 77 I/O58 1D12 (io), 78 I/O59 1D13 (io), 82 I/O60 1D14 (io), 83 I/O61 1D15 (io), 84 I/O62 1C14 (io), 85 I/O63 1C13 (io), 86 I/O64 1C12 (io), 87 I/O65 1C11 (io), 88 I/O66 1C10 (io), 89 I/O67 1C9 (io), 91 I/O68 1C8 (io), 92 I/O69 1C7 (io), 93 I/O70 1C6 (io), 94 I/O71 1C5 (io), 95 I/O72 1C4 (io), 96 I/O73 1C3 (io), 97 I/O74 1C2 (io), 98 I/O75 1C1 (io), 103 I/O76 0C1 (io), 104 I/O77 0C2 (io), 105 I/O78 0C3 (io), 106 I/O79 0C4 (io), 107 I/O80 0C5 (io), 108 I/O81 0C6 (io), 109 I/O82 0C7 (io), 110 I/O83 0C8 (io), 112 I/O84 0C9 (io), 113 I/O85 0C10 (io), 114 I/O86 0C11 (io), 115 I/O87 0C12 (io), 116 I/O88 0C13 (io), 117 I/O89 0C14 (io), 118 I/O90 0D15 (io), 119 I/O91 0D14 (io), 123 I/O92 0D13 (io), 124 I/O93 0D12 (io), 125 I/O94 0D11 (io), 126 I/O95 0D10 (io), 127 I/O96 0D9 (io), 128 I/O97 0D8 (io), 129 I/O98 0D7 (io), 130 I/O99 0D6 (io), 133 I/O100 0D5 (io), 134 I/O101 0D4 (io), 135 I/O102 0D3 (io), 136 I/O103 0D2 (io), 137 I/O104 0D1 (io), 138 I/O105 0D0 (io), 143 I/O106 0A0 (io), 144 I/O107 0A1 (io), 145 I/O108 0A2 (io), 146 I/O109 0A3 (io), 147 I/O110 0A4 (io), 148 I/O111 0A5 (io), 151 I/O112 0A6 (io), 152 I/O113 0A7 (io), 153 I/O114 0A8 (io), 154 I/O115 0A9 (io), 155 I/O116 0A10 (io), 156 I/O117 0A11 (io), 157 I/O118 0A12 (io), 158 I/O119 0A13 (io)
part B pins: 1 TDI (in), 10 GND (power), 19 I0/CLK0 (in), 20 VCC (power), 21 GND (power), 22 I1/CLK1 (in), 31 GND (power), 40 TCK (in), 41 GND (power), 42 VCC (power), 51 GND (power), 52 VCC (power), 59 VCC (power), 60 GND (power), 61 GND (power), 62 VCC (power), 69 VCC (power), 70 GND (power), 79 VCC (power), 80 GND (power), 81 TMS (in), 90 GND (power), 99 I2/CLK2 (in), 100 VCC (power), 101 GND (power), 102 I3/CLK3 (in), 111 GND (power), 120 TDO (out), 121 GND (power), 122 VCC (power), 131 GND (power), 132 VCC (power), 139 VCC (power), 140 GND (power), 141 GND (power), 142 VCC (power), 149 VCC (power), 150 GND (power), 159 VCC (power), 160 GND (power)

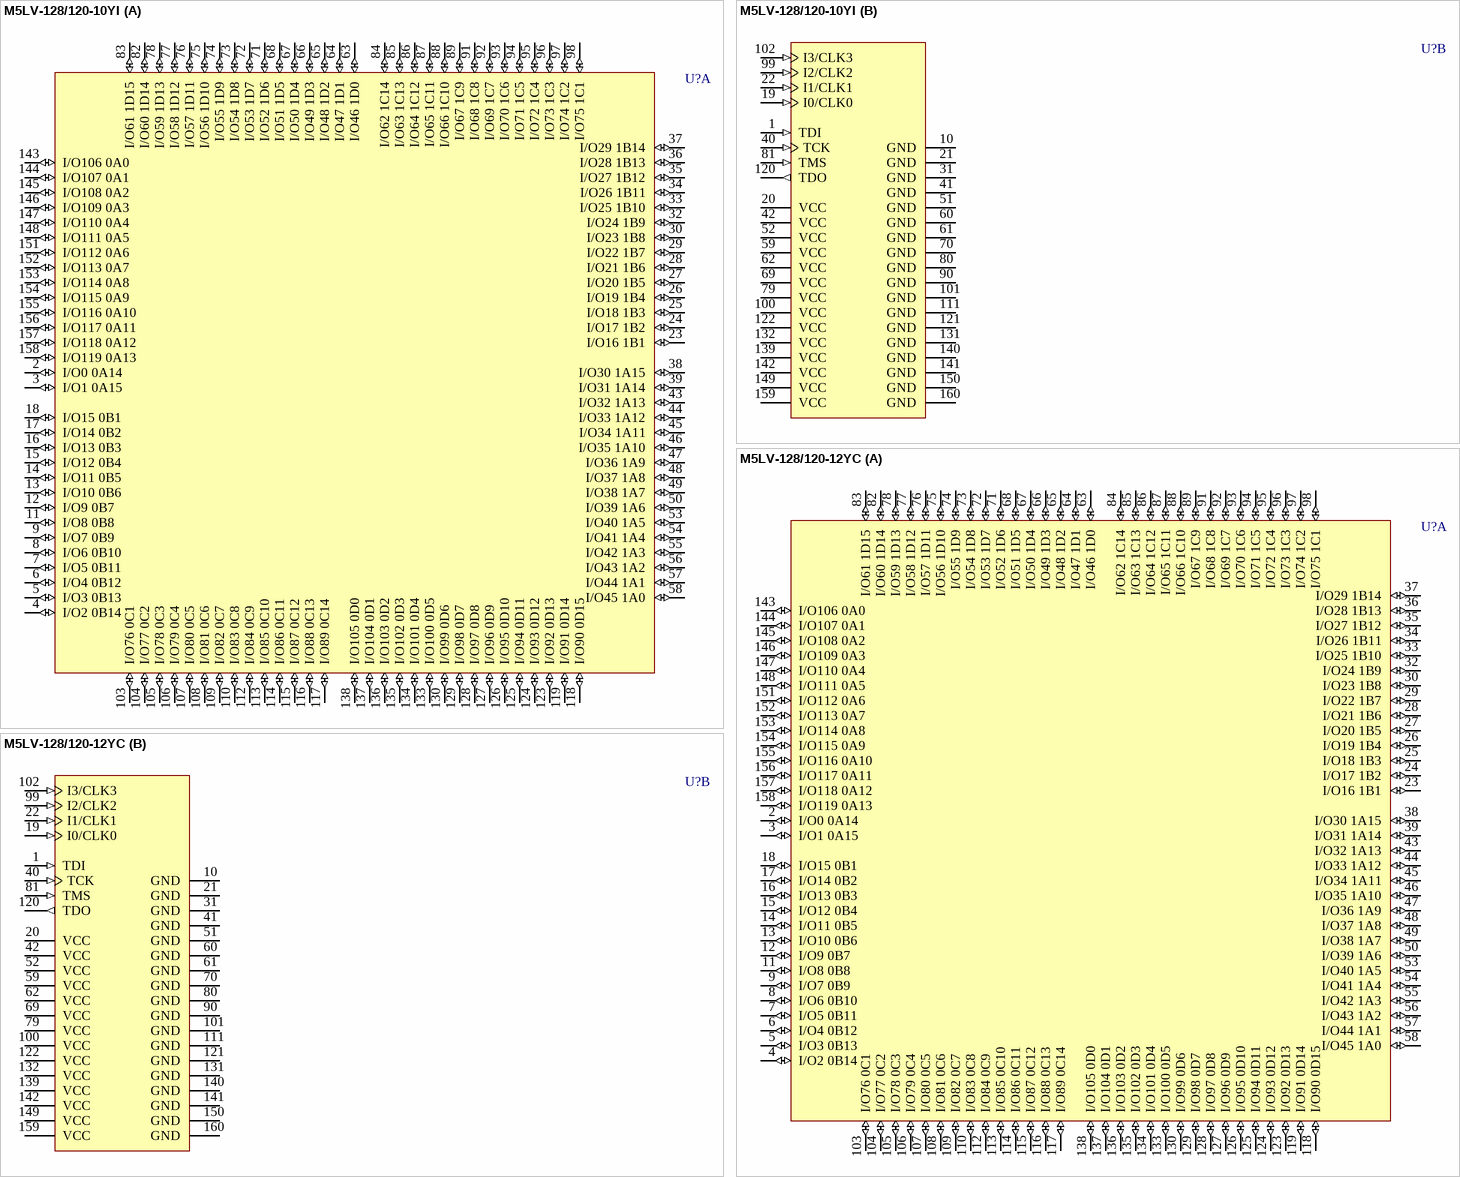
[diagram p171: symbols M5LV-128/120-10YI to M5LV-128/120-12YC]

## M5LV-128/120-10YI
designator U?
High-Density and High-I/O Complex PLD; Published: 23-Sep-2002; LatestRevisionDate: 13-Apr-2006; LatestRevisionNote: IPC-7351 Footprint Added.; DatasheetVersion: Sep-2000; PackageVersion: pkg_32, Aug-2005; PackageReference: PQFP160; Publisher: Altium Limited; PackageDescription: 160-Pin Quad Flat Pack 0.65 mm Pitch; Code_IPC: QFP65P3120X3120-160; ComponentLink1Description: Manufacturer Link; ComponentLink1URL: http://www.latticesemi.com/products/mature/index.cfm; ComponentLink2Description: Datasheet; ComponentLink2URL: http://www.latticesemi.com/lit/docs/datasheets/cpld/mach5.pdf
footprint PQFP160_N (QFP, 160-Leads, Body 28 x 28mm, Pitch 0.65mm, IPC Medium Density)
footprint PQFP160_L (QFP, 160-Leads, Body 28 x 28mm, Pitch 0.65mm, IPC High Density)
footprint PQFP160_M (QFP, 160-Leads, Body 28 x 28mm, Pitch 0.65mm, IPC Low Density)
3D model M5LV-PQFP160 (160-Pin Quad Flat Pack 0.65 mm Pitch)
part A pins: 2 I/O0 0A14 (io), 3 I/O1 0A15 (io), 4 I/O2 0B14 (io), 5 I/O3 0B13 (io), 6 I/O4 0B12 (io), 7 I/O5 0B11 (io), 8 I/O6 0B10 (io), 9 I/O7 0B9 (io), 11 I/O8 0B8 (io), 12 I/O9 0B7 (io), 13 I/O10 0B6 (io), 14 I/O11 0B5 (io), 15 I/O12 0B4 (io), 16 I/O13 0B3 (io), 17 I/O14 0B2 (io), 18 I/O15 0B1 (io), 23 I/O16 1B1 (io), 24 I/O17 1B2 (io), 25 I/O18 1B3 (io), 26 I/O19 1B4 (io), 27 I/O20 1B5 (io), 28 I/O21 1B6 (io), 29 I/O22 1B7 (io), 30 I/O23 1B8 (io), 32 I/O24 1B9 (io), 33 I/O25 1B10 (io), 34 I/O26 1B11 (io), 35 I/O27 1B12 (io), 36 I/O28 1B13 (io), 37 I/O29 1B14 (io), 38 I/O30 1A15 (io), 39 I/O31 1A14 (io), 43 I/O32 1A13 (io), 44 I/O33 1A12 (io), 45 I/O34 1A11 (io), 46 I/O35 1A10 (io), 47 I/O36 1A9 (io), 48 I/O37 1A8 (io), 49 I/O38 1A7 (io), 50 I/O39 1A6 (io), 53 I/O40 1A5 (io), 54 I/O41 1A4 (io), 55 I/O42 1A3 (io), 56 I/O43 1A2 (io), 57 I/O44 1A1 (io), 58 I/O45 1A0 (io), 63 I/O46 1D0 (io), 64 I/O47 1D1 (io), 65 I/O48 1D2 (io), 66 I/O49 1D3 (io), 67 I/O50 1D4 (io), 68 I/O51 1D5 (io), 71 I/O52 1D6 (io), 72 I/O53 1D7 (io), 73 I/O54 1D8 (io), 74 I/O55 1D9 (io), 75 I/O56 1D10 (io), 76 I/O57 1D11 (io), 77 I/O58 1D12 (io), 78 I/O59 1D13 (io), 82 I/O60 1D14 (io), 83 I/O61 1D15 (io), 84 I/O62 1C14 (io), 85 I/O63 1C13 (io), 86 I/O64 1C12 (io), 87 I/O65 1C11 (io), 88 I/O66 1C10 (io), 89 I/O67 1C9 (io), 91 I/O68 1C8 (io), 92 I/O69 1C7 (io), 93 I/O70 1C6 (io), 94 I/O71 1C5 (io), 95 I/O72 1C4 (io), 96 I/O73 1C3 (io), 97 I/O74 1C2 (io), 98 I/O75 1C1 (io), 103 I/O76 0C1 (io), 104 I/O77 0C2 (io), 105 I/O78 0C3 (io), 106 I/O79 0C4 (io), 107 I/O80 0C5 (io), 108 I/O81 0C6 (io), 109 I/O82 0C7 (io), 110 I/O83 0C8 (io), 112 I/O84 0C9 (io), 113 I/O85 0C10 (io), 114 I/O86 0C11 (io), 115 I/O87 0C12 (io), 116 I/O88 0C13 (io), 117 I/O89 0C14 (io), 118 I/O90 0D15 (io), 119 I/O91 0D14 (io), 123 I/O92 0D13 (io), 124 I/O93 0D12 (io), 125 I/O94 0D11 (io), 126 I/O95 0D10 (io), 127 I/O96 0D9 (io), 128 I/O97 0D8 (io), 129 I/O98 0D7 (io), 130 I/O99 0D6 (io), 133 I/O100 0D5 (io), 134 I/O101 0D4 (io), 135 I/O102 0D3 (io), 136 I/O103 0D2 (io), 137 I/O104 0D1 (io), 138 I/O105 0D0 (io), 143 I/O106 0A0 (io), 144 I/O107 0A1 (io), 145 I/O108 0A2 (io), 146 I/O109 0A3 (io), 147 I/O110 0A4 (io), 148 I/O111 0A5 (io), 151 I/O112 0A6 (io), 152 I/O113 0A7 (io), 153 I/O114 0A8 (io), 154 I/O115 0A9 (io), 155 I/O116 0A10 (io), 156 I/O117 0A11 (io), 157 I/O118 0A12 (io), 158 I/O119 0A13 (io)
part B pins: 1 TDI (in), 10 GND (power), 19 I0/CLK0 (in), 20 VCC (power), 21 GND (power), 22 I1/CLK1 (in), 31 GND (power), 40 TCK (in), 41 GND (power), 42 VCC (power), 51 GND (power), 52 VCC (power), 59 VCC (power), 60 GND (power), 61 GND (power), 62 VCC (power), 69 VCC (power), 70 GND (power), 79 VCC (power), 80 GND (power), 81 TMS (in), 90 GND (power), 99 I2/CLK2 (in), 100 VCC (power), 101 GND (power), 102 I3/CLK3 (in), 111 GND (power), 120 TDO (out), 121 GND (power), 122 VCC (power), 131 GND (power), 132 VCC (power), 139 VCC (power), 140 GND (power), 141 GND (power), 142 VCC (power), 149 VCC (power), 150 GND (power), 159 VCC (power), 160 GND (power)

## M5LV-128/120-12YC
designator U?
High-Density and High-I/O Complex PLD; Published: 23-Sep-2002; LatestRevisionDate: 13-Apr-2006; LatestRevisionNote: IPC-7351 Footprint Added.; DatasheetVersion: Sep-2000; PackageVersion: pkg_32, Aug-2005; PackageReference: PQFP160; Publisher: Altium Limited; PackageDescription: 160-Pin Quad Flat Pack 0.65 mm Pitch; Code_IPC: QFP65P3120X3120-160; ComponentLink1Description: Manufacturer Link; ComponentLink1URL: http://www.latticesemi.com/products/mature/index.cfm; ComponentLink2Description: Datasheet; ComponentLink2URL: http://www.latticesemi.com/lit/docs/datasheets/cpld/mach5.pdf
footprint PQFP160_N (QFP, 160-Leads, Body 28 x 28mm, Pitch 0.65mm, IPC Medium Density)
footprint PQFP160_L (QFP, 160-Leads, Body 28 x 28mm, Pitch 0.65mm, IPC High Density)
footprint PQFP160_M (QFP, 160-Leads, Body 28 x 28mm, Pitch 0.65mm, IPC Low Density)
3D model M5LV-PQFP160 (160-Pin Quad Flat Pack 0.65 mm Pitch)
part A pins: 2 I/O0 0A14 (io), 3 I/O1 0A15 (io), 4 I/O2 0B14 (io), 5 I/O3 0B13 (io), 6 I/O4 0B12 (io), 7 I/O5 0B11 (io), 8 I/O6 0B10 (io), 9 I/O7 0B9 (io), 11 I/O8 0B8 (io), 12 I/O9 0B7 (io), 13 I/O10 0B6 (io), 14 I/O11 0B5 (io), 15 I/O12 0B4 (io), 16 I/O13 0B3 (io), 17 I/O14 0B2 (io), 18 I/O15 0B1 (io), 23 I/O16 1B1 (io), 24 I/O17 1B2 (io), 25 I/O18 1B3 (io), 26 I/O19 1B4 (io), 27 I/O20 1B5 (io), 28 I/O21 1B6 (io), 29 I/O22 1B7 (io), 30 I/O23 1B8 (io), 32 I/O24 1B9 (io), 33 I/O25 1B10 (io), 34 I/O26 1B11 (io), 35 I/O27 1B12 (io), 36 I/O28 1B13 (io), 37 I/O29 1B14 (io), 38 I/O30 1A15 (io), 39 I/O31 1A14 (io), 43 I/O32 1A13 (io), 44 I/O33 1A12 (io), 45 I/O34 1A11 (io), 46 I/O35 1A10 (io), 47 I/O36 1A9 (io), 48 I/O37 1A8 (io), 49 I/O38 1A7 (io), 50 I/O39 1A6 (io), 53 I/O40 1A5 (io), 54 I/O41 1A4 (io), 55 I/O42 1A3 (io), 56 I/O43 1A2 (io), 57 I/O44 1A1 (io), 58 I/O45 1A0 (io), 63 I/O46 1D0 (io), 64 I/O47 1D1 (io), 65 I/O48 1D2 (io), 66 I/O49 1D3 (io), 67 I/O50 1D4 (io), 68 I/O51 1D5 (io), 71 I/O52 1D6 (io), 72 I/O53 1D7 (io), 73 I/O54 1D8 (io), 74 I/O55 1D9 (io), 75 I/O56 1D10 (io), 76 I/O57 1D11 (io), 77 I/O58 1D12 (io), 78 I/O59 1D13 (io), 82 I/O60 1D14 (io), 83 I/O61 1D15 (io), 84 I/O62 1C14 (io), 85 I/O63 1C13 (io), 86 I/O64 1C12 (io), 87 I/O65 1C11 (io), 88 I/O66 1C10 (io), 89 I/O67 1C9 (io), 91 I/O68 1C8 (io), 92 I/O69 1C7 (io), 93 I/O70 1C6 (io), 94 I/O71 1C5 (io), 95 I/O72 1C4 (io), 96 I/O73 1C3 (io), 97 I/O74 1C2 (io), 98 I/O75 1C1 (io), 103 I/O76 0C1 (io), 104 I/O77 0C2 (io), 105 I/O78 0C3 (io), 106 I/O79 0C4 (io), 107 I/O80 0C5 (io), 108 I/O81 0C6 (io), 109 I/O82 0C7 (io), 110 I/O83 0C8 (io), 112 I/O84 0C9 (io), 113 I/O85 0C10 (io), 114 I/O86 0C11 (io), 115 I/O87 0C12 (io), 116 I/O88 0C13 (io), 117 I/O89 0C14 (io), 118 I/O90 0D15 (io), 119 I/O91 0D14 (io), 123 I/O92 0D13 (io), 124 I/O93 0D12 (io), 125 I/O94 0D11 (io), 126 I/O95 0D10 (io), 127 I/O96 0D9 (io), 128 I/O97 0D8 (io), 129 I/O98 0D7 (io), 130 I/O99 0D6 (io), 133 I/O100 0D5 (io), 134 I/O101 0D4 (io), 135 I/O102 0D3 (io), 136 I/O103 0D2 (io), 137 I/O104 0D1 (io), 138 I/O105 0D0 (io), 143 I/O106 0A0 (io), 144 I/O107 0A1 (io), 145 I/O108 0A2 (io), 146 I/O109 0A3 (io), 147 I/O110 0A4 (io), 148 I/O111 0A5 (io), 151 I/O112 0A6 (io), 152 I/O113 0A7 (io), 153 I/O114 0A8 (io), 154 I/O115 0A9 (io), 155 I/O116 0A10 (io), 156 I/O117 0A11 (io), 157 I/O118 0A12 (io), 158 I/O119 0A13 (io)
part B pins: 1 TDI (in), 10 GND (power), 19 I0/CLK0 (in), 20 VCC (power), 21 GND (power), 22 I1/CLK1 (in), 31 GND (power), 40 TCK (in), 41 GND (power), 42 VCC (power), 51 GND (power), 52 VCC (power), 59 VCC (power), 60 GND (power), 61 GND (power), 62 VCC (power), 69 VCC (power), 70 GND (power), 79 VCC (power), 80 GND (power), 81 TMS (in), 90 GND (power), 99 I2/CLK2 (in), 100 VCC (power), 101 GND (power), 102 I3/CLK3 (in), 111 GND (power), 120 TDO (out), 121 GND (power), 122 VCC (power), 131 GND (power), 132 VCC (power), 139 VCC (power), 140 GND (power), 141 GND (power), 142 VCC (power), 149 VCC (power), 150 GND (power), 159 VCC (power), 160 GND (power)

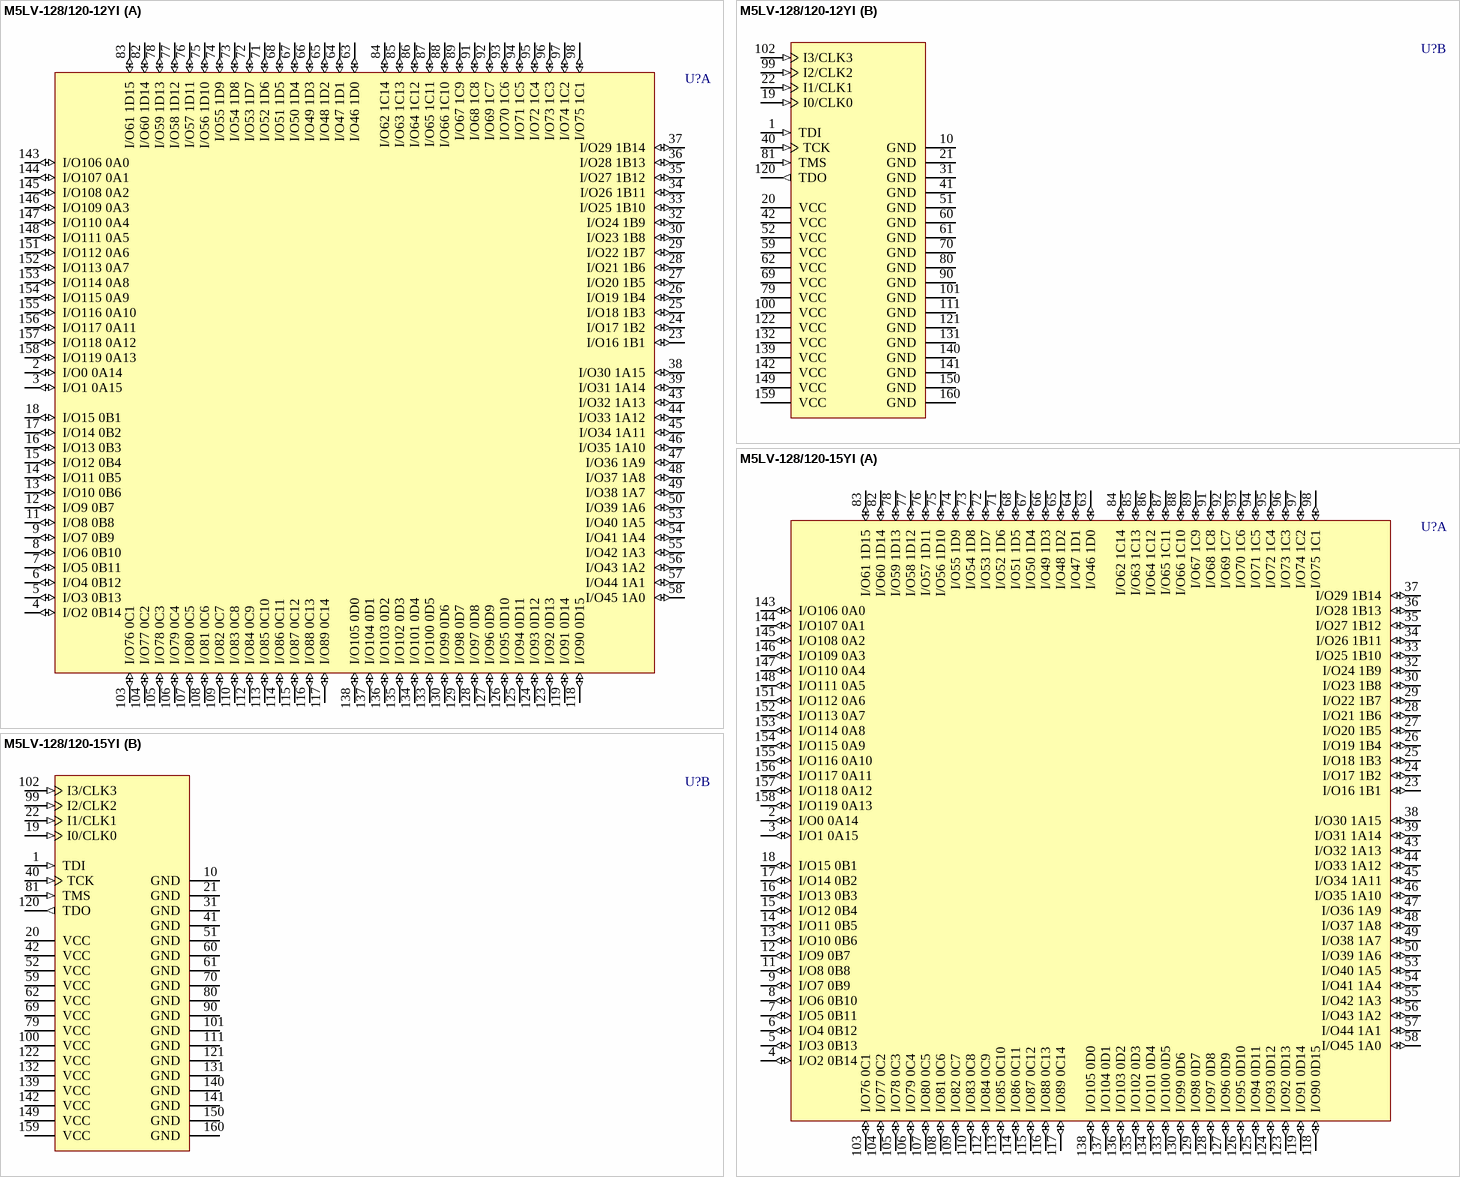
[diagram p172: symbols M5LV-128/120-12YI to M5LV-128/120-15YI]

## M5LV-128/120-12YI
designator U?
High-Density and High-I/O Complex PLD; Published: 23-Sep-2002; LatestRevisionDate: 13-Apr-2006; LatestRevisionNote: IPC-7351 Footprint Added.; DatasheetVersion: Sep-2000; PackageVersion: pkg_32, Aug-2005; PackageReference: PQFP160; Publisher: Altium Limited; PackageDescription: 160-Pin Quad Flat Pack 0.65 mm Pitch; Code_IPC: QFP65P3120X3120-160; ComponentLink1Description: Manufacturer Link; ComponentLink1URL: http://www.latticesemi.com/products/mature/index.cfm; ComponentLink2Description: Datasheet; ComponentLink2URL: http://www.latticesemi.com/lit/docs/datasheets/cpld/mach5.pdf
footprint PQFP160_N (QFP, 160-Leads, Body 28 x 28mm, Pitch 0.65mm, IPC Medium Density)
footprint PQFP160_L (QFP, 160-Leads, Body 28 x 28mm, Pitch 0.65mm, IPC High Density)
footprint PQFP160_M (QFP, 160-Leads, Body 28 x 28mm, Pitch 0.65mm, IPC Low Density)
3D model M5LV-PQFP160 (160-Pin Quad Flat Pack 0.65 mm Pitch)
part A pins: 2 I/O0 0A14 (io), 3 I/O1 0A15 (io), 4 I/O2 0B14 (io), 5 I/O3 0B13 (io), 6 I/O4 0B12 (io), 7 I/O5 0B11 (io), 8 I/O6 0B10 (io), 9 I/O7 0B9 (io), 11 I/O8 0B8 (io), 12 I/O9 0B7 (io), 13 I/O10 0B6 (io), 14 I/O11 0B5 (io), 15 I/O12 0B4 (io), 16 I/O13 0B3 (io), 17 I/O14 0B2 (io), 18 I/O15 0B1 (io), 23 I/O16 1B1 (io), 24 I/O17 1B2 (io), 25 I/O18 1B3 (io), 26 I/O19 1B4 (io), 27 I/O20 1B5 (io), 28 I/O21 1B6 (io), 29 I/O22 1B7 (io), 30 I/O23 1B8 (io), 32 I/O24 1B9 (io), 33 I/O25 1B10 (io), 34 I/O26 1B11 (io), 35 I/O27 1B12 (io), 36 I/O28 1B13 (io), 37 I/O29 1B14 (io), 38 I/O30 1A15 (io), 39 I/O31 1A14 (io), 43 I/O32 1A13 (io), 44 I/O33 1A12 (io), 45 I/O34 1A11 (io), 46 I/O35 1A10 (io), 47 I/O36 1A9 (io), 48 I/O37 1A8 (io), 49 I/O38 1A7 (io), 50 I/O39 1A6 (io), 53 I/O40 1A5 (io), 54 I/O41 1A4 (io), 55 I/O42 1A3 (io), 56 I/O43 1A2 (io), 57 I/O44 1A1 (io), 58 I/O45 1A0 (io), 63 I/O46 1D0 (io), 64 I/O47 1D1 (io), 65 I/O48 1D2 (io), 66 I/O49 1D3 (io), 67 I/O50 1D4 (io), 68 I/O51 1D5 (io), 71 I/O52 1D6 (io), 72 I/O53 1D7 (io), 73 I/O54 1D8 (io), 74 I/O55 1D9 (io), 75 I/O56 1D10 (io), 76 I/O57 1D11 (io), 77 I/O58 1D12 (io), 78 I/O59 1D13 (io), 82 I/O60 1D14 (io), 83 I/O61 1D15 (io), 84 I/O62 1C14 (io), 85 I/O63 1C13 (io), 86 I/O64 1C12 (io), 87 I/O65 1C11 (io), 88 I/O66 1C10 (io), 89 I/O67 1C9 (io), 91 I/O68 1C8 (io), 92 I/O69 1C7 (io), 93 I/O70 1C6 (io), 94 I/O71 1C5 (io), 95 I/O72 1C4 (io), 96 I/O73 1C3 (io), 97 I/O74 1C2 (io), 98 I/O75 1C1 (io), 103 I/O76 0C1 (io), 104 I/O77 0C2 (io), 105 I/O78 0C3 (io), 106 I/O79 0C4 (io), 107 I/O80 0C5 (io), 108 I/O81 0C6 (io), 109 I/O82 0C7 (io), 110 I/O83 0C8 (io), 112 I/O84 0C9 (io), 113 I/O85 0C10 (io), 114 I/O86 0C11 (io), 115 I/O87 0C12 (io), 116 I/O88 0C13 (io), 117 I/O89 0C14 (io), 118 I/O90 0D15 (io), 119 I/O91 0D14 (io), 123 I/O92 0D13 (io), 124 I/O93 0D12 (io), 125 I/O94 0D11 (io), 126 I/O95 0D10 (io), 127 I/O96 0D9 (io), 128 I/O97 0D8 (io), 129 I/O98 0D7 (io), 130 I/O99 0D6 (io), 133 I/O100 0D5 (io), 134 I/O101 0D4 (io), 135 I/O102 0D3 (io), 136 I/O103 0D2 (io), 137 I/O104 0D1 (io), 138 I/O105 0D0 (io), 143 I/O106 0A0 (io), 144 I/O107 0A1 (io), 145 I/O108 0A2 (io), 146 I/O109 0A3 (io), 147 I/O110 0A4 (io), 148 I/O111 0A5 (io), 151 I/O112 0A6 (io), 152 I/O113 0A7 (io), 153 I/O114 0A8 (io), 154 I/O115 0A9 (io), 155 I/O116 0A10 (io), 156 I/O117 0A11 (io), 157 I/O118 0A12 (io), 158 I/O119 0A13 (io)
part B pins: 1 TDI (in), 10 GND (power), 19 I0/CLK0 (in), 20 VCC (power), 21 GND (power), 22 I1/CLK1 (in), 31 GND (power), 40 TCK (in), 41 GND (power), 42 VCC (power), 51 GND (power), 52 VCC (power), 59 VCC (power), 60 GND (power), 61 GND (power), 62 VCC (power), 69 VCC (power), 70 GND (power), 79 VCC (power), 80 GND (power), 81 TMS (in), 90 GND (power), 99 I2/CLK2 (in), 100 VCC (power), 101 GND (power), 102 I3/CLK3 (in), 111 GND (power), 120 TDO (out), 121 GND (power), 122 VCC (power), 131 GND (power), 132 VCC (power), 139 VCC (power), 140 GND (power), 141 GND (power), 142 VCC (power), 149 VCC (power), 150 GND (power), 159 VCC (power), 160 GND (power)

## M5LV-128/120-15YI
designator U?
High-Density and High-I/O Complex PLD; Published: 23-Sep-2002; LatestRevisionDate: 13-Apr-2006; LatestRevisionNote: IPC-7351 Footprint Added.; DatasheetVersion: Sep-2000; PackageVersion: pkg_32, Aug-2005; PackageReference: PQFP160; Publisher: Altium Limited; PackageDescription: 160-Pin Quad Flat Pack 0.65 mm Pitch; Code_IPC: QFP65P3120X3120-160; ComponentLink1Description: Manufacturer Link; ComponentLink1URL: http://www.latticesemi.com/products/mature/index.cfm; ComponentLink2Description: Datasheet; ComponentLink2URL: http://www.latticesemi.com/lit/docs/datasheets/cpld/mach5.pdf
footprint PQFP160_N (QFP, 160-Leads, Body 28 x 28mm, Pitch 0.65mm, IPC Medium Density)
footprint PQFP160_L (QFP, 160-Leads, Body 28 x 28mm, Pitch 0.65mm, IPC High Density)
footprint PQFP160_M (QFP, 160-Leads, Body 28 x 28mm, Pitch 0.65mm, IPC Low Density)
3D model M5LV-PQFP160 (160-Pin Quad Flat Pack 0.65 mm Pitch)
part A pins: 2 I/O0 0A14 (io), 3 I/O1 0A15 (io), 4 I/O2 0B14 (io), 5 I/O3 0B13 (io), 6 I/O4 0B12 (io), 7 I/O5 0B11 (io), 8 I/O6 0B10 (io), 9 I/O7 0B9 (io), 11 I/O8 0B8 (io), 12 I/O9 0B7 (io), 13 I/O10 0B6 (io), 14 I/O11 0B5 (io), 15 I/O12 0B4 (io), 16 I/O13 0B3 (io), 17 I/O14 0B2 (io), 18 I/O15 0B1 (io), 23 I/O16 1B1 (io), 24 I/O17 1B2 (io), 25 I/O18 1B3 (io), 26 I/O19 1B4 (io), 27 I/O20 1B5 (io), 28 I/O21 1B6 (io), 29 I/O22 1B7 (io), 30 I/O23 1B8 (io), 32 I/O24 1B9 (io), 33 I/O25 1B10 (io), 34 I/O26 1B11 (io), 35 I/O27 1B12 (io), 36 I/O28 1B13 (io), 37 I/O29 1B14 (io), 38 I/O30 1A15 (io), 39 I/O31 1A14 (io), 43 I/O32 1A13 (io), 44 I/O33 1A12 (io), 45 I/O34 1A11 (io), 46 I/O35 1A10 (io), 47 I/O36 1A9 (io), 48 I/O37 1A8 (io), 49 I/O38 1A7 (io), 50 I/O39 1A6 (io), 53 I/O40 1A5 (io), 54 I/O41 1A4 (io), 55 I/O42 1A3 (io), 56 I/O43 1A2 (io), 57 I/O44 1A1 (io), 58 I/O45 1A0 (io), 63 I/O46 1D0 (io), 64 I/O47 1D1 (io), 65 I/O48 1D2 (io), 66 I/O49 1D3 (io), 67 I/O50 1D4 (io), 68 I/O51 1D5 (io), 71 I/O52 1D6 (io), 72 I/O53 1D7 (io), 73 I/O54 1D8 (io), 74 I/O55 1D9 (io), 75 I/O56 1D10 (io), 76 I/O57 1D11 (io), 77 I/O58 1D12 (io), 78 I/O59 1D13 (io), 82 I/O60 1D14 (io), 83 I/O61 1D15 (io), 84 I/O62 1C14 (io), 85 I/O63 1C13 (io), 86 I/O64 1C12 (io), 87 I/O65 1C11 (io), 88 I/O66 1C10 (io), 89 I/O67 1C9 (io), 91 I/O68 1C8 (io), 92 I/O69 1C7 (io), 93 I/O70 1C6 (io), 94 I/O71 1C5 (io), 95 I/O72 1C4 (io), 96 I/O73 1C3 (io), 97 I/O74 1C2 (io), 98 I/O75 1C1 (io), 103 I/O76 0C1 (io), 104 I/O77 0C2 (io), 105 I/O78 0C3 (io), 106 I/O79 0C4 (io), 107 I/O80 0C5 (io), 108 I/O81 0C6 (io), 109 I/O82 0C7 (io), 110 I/O83 0C8 (io), 112 I/O84 0C9 (io), 113 I/O85 0C10 (io), 114 I/O86 0C11 (io), 115 I/O87 0C12 (io), 116 I/O88 0C13 (io), 117 I/O89 0C14 (io), 118 I/O90 0D15 (io), 119 I/O91 0D14 (io), 123 I/O92 0D13 (io), 124 I/O93 0D12 (io), 125 I/O94 0D11 (io), 126 I/O95 0D10 (io), 127 I/O96 0D9 (io), 128 I/O97 0D8 (io), 129 I/O98 0D7 (io), 130 I/O99 0D6 (io), 133 I/O100 0D5 (io), 134 I/O101 0D4 (io), 135 I/O102 0D3 (io), 136 I/O103 0D2 (io), 137 I/O104 0D1 (io), 138 I/O105 0D0 (io), 143 I/O106 0A0 (io), 144 I/O107 0A1 (io), 145 I/O108 0A2 (io), 146 I/O109 0A3 (io), 147 I/O110 0A4 (io), 148 I/O111 0A5 (io), 151 I/O112 0A6 (io), 152 I/O113 0A7 (io), 153 I/O114 0A8 (io), 154 I/O115 0A9 (io), 155 I/O116 0A10 (io), 156 I/O117 0A11 (io), 157 I/O118 0A12 (io), 158 I/O119 0A13 (io)
part B pins: 1 TDI (in), 10 GND (power), 19 I0/CLK0 (in), 20 VCC (power), 21 GND (power), 22 I1/CLK1 (in), 31 GND (power), 40 TCK (in), 41 GND (power), 42 VCC (power), 51 GND (power), 52 VCC (power), 59 VCC (power), 60 GND (power), 61 GND (power), 62 VCC (power), 69 VCC (power), 70 GND (power), 79 VCC (power), 80 GND (power), 81 TMS (in), 90 GND (power), 99 I2/CLK2 (in), 100 VCC (power), 101 GND (power), 102 I3/CLK3 (in), 111 GND (power), 120 TDO (out), 121 GND (power), 122 VCC (power), 131 GND (power), 132 VCC (power), 139 VCC (power), 140 GND (power), 141 GND (power), 142 VCC (power), 149 VCC (power), 150 GND (power), 159 VCC (power), 160 GND (power)

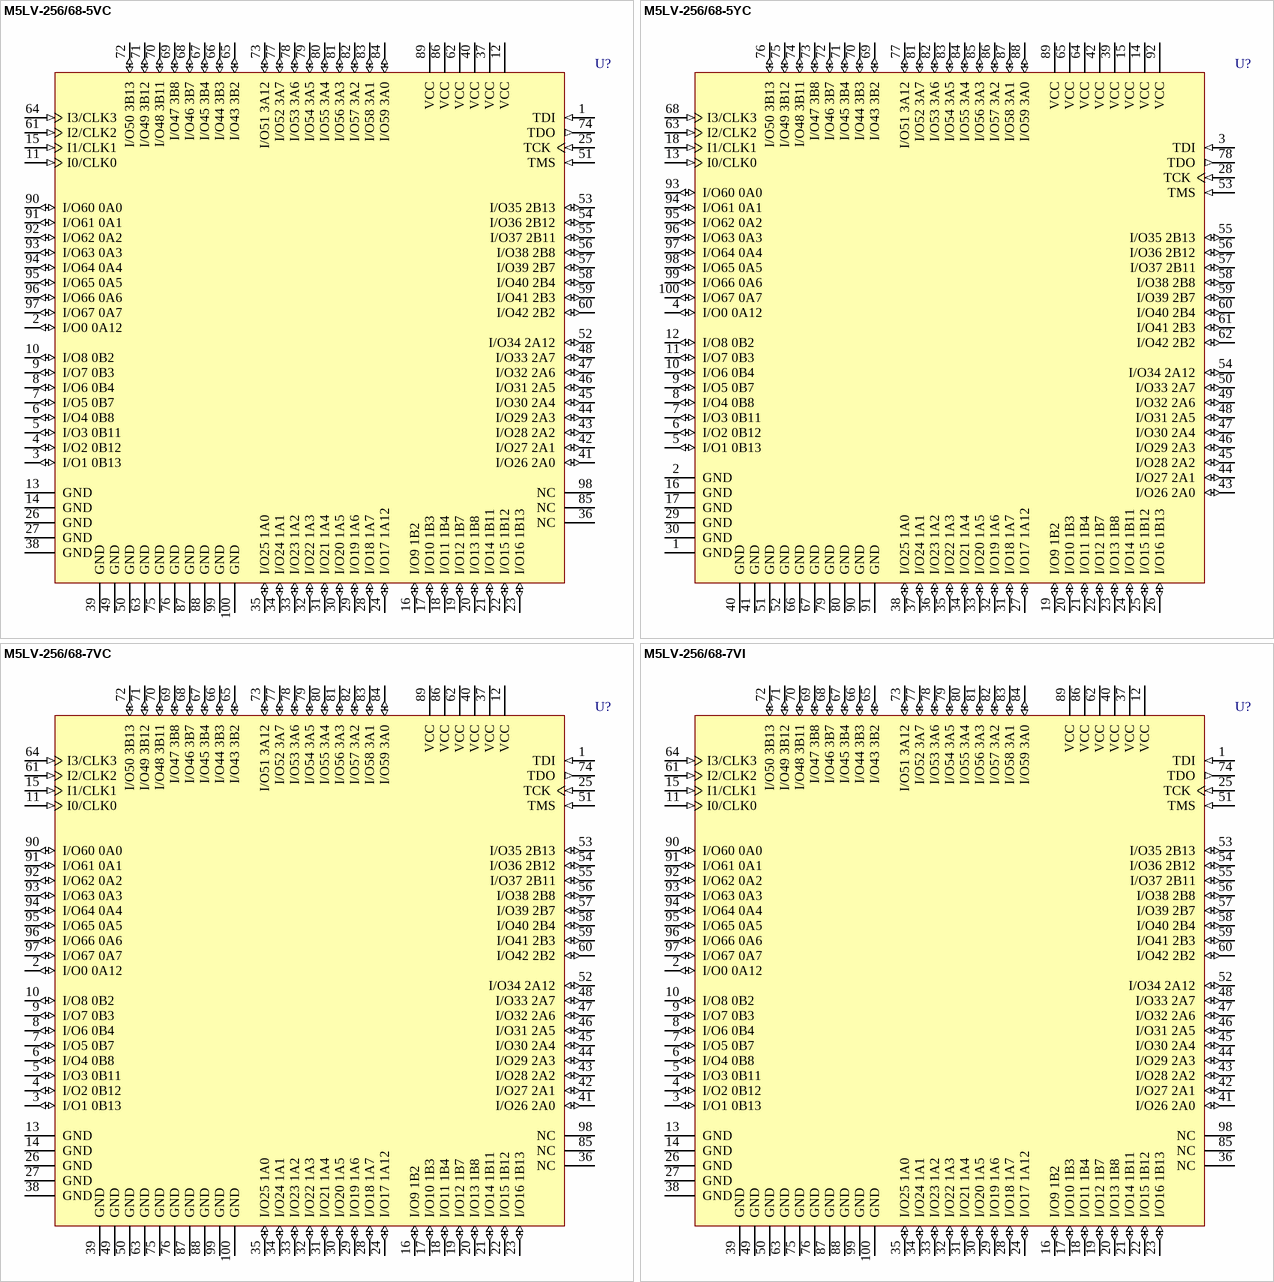
[diagram p173: symbols M5LV-256/68-5VC to M5LV-256/68-7VI]

## M5LV-256/68-5VC
designator U?
High-Density and High-I/O Complex PLD; Published: 23-Sep-2002; LatestRevisionDate: 13-Apr-2006; LatestRevisionNote: IPC-7351 Footprint Added.; DatasheetVersion: Sep-2000; PackageVersion: pkg_32, Aug-2005; PackageReference: TQFP100; Publisher: Altium Limited; PackageDescription: 100-Pin Thin Quad Flat Pack (TQFP100); Code_JEDEC: MS-026-BED; ComponentLink1Description: Manufacturer Link; ComponentLink1URL: http://www.latticesemi.com/products/mature/index.cfm; ComponentLink2Description: Datasheet; ComponentLink2URL: http://www.latticesemi.com/lit/docs/datasheets/cpld/mach5.pdf
footprint TQFP100_N (Thin QFP, 100-Leads, Body 14x14mm, Pitch 0.5mm, IPC Medium Density)
footprint TQFP100_L (Thin QFP, 100-Leads, Body 14x14mm, Pitch 0.5mm, IPC High Density)
footprint TQFP100_M (Thin QFP, 100-Leads, Body 14x14mm, Pitch 0.5mm, IPC Low Density)
3D model M5LV-TQFP100 (100-Pin Thin Quad Flat Pack (TQFP100))
pins: 1 TDI (in), 2 I/O0 0A12 (io), 3 I/O1 0B13 (io), 4 I/O2 0B12 (io), 5 I/O3 0B11 (io), 6 I/O4 0B8 (io), 7 I/O5 0B7 (io), 8 I/O6 0B4 (io), 9 I/O7 0B3 (io), 10 I/O8 0B2 (io), 11 I0/CLK0 (in), 12 VCC (power), 13 GND (power), 14 GND (power), 15 I1/CLK1 (in), 16 I/O9 1B2 (io), 17 I/O10 1B3 (io), 18 I/O11 1B4 (io), 19 I/O12 1B7 (io), 20 I/O13 1B8 (io), 21 I/O14 1B11 (io), 22 I/O15 1B12 (io), 23 I/O16 1B13 (io), 24 I/O17 1A12 (io), 25 TCK (in), 26 GND (power), 27 GND (power), 28 I/O18 1A7 (io), 29 I/O19 1A6 (io), 30 I/O20 1A5 (io), 31 I/O21 1A4 (io), 32 I/O22 1A3 (io), 33 I/O23 1A2 (io), 34 I/O24 1A1 (io), 35 I/O25 1A0 (io), 36 NC, 37 VCC (power), 38 GND (power), 39 GND (power), 40 VCC (power), 41 I/O26 2A0 (io), 42 I/O27 2A1 (io), 43 I/O28 2A2 (io), 44 I/O29 2A3 (io), 45 I/O30 2A4 (io), 46 I/O31 2A5 (io), 47 I/O32 2A6 (io), 48 I/O33 2A7 (io), 49 GND (power), 50 GND (power), 51 TMS (in), 52 I/O34 2A12 (io), 53 I/O35 2B13 (io), 54 I/O36 2B12 (io), 55 I/O37 2B11 (io), 56 I/O38 2B8 (io), 57 I/O39 2B7 (io), 58 I/O40 2B4 (io), 59 I/O41 2B3 (io), 60 I/O42 2B2 (io), 61 I2/CLK2 (in), 62 VCC (power), 63 GND (power), 64 I3/CLK3 (in), 65 I/O43 3B2 (io), 66 I/O44 3B3 (io), 67 I/O45 3B4 (io), 68 I/O46 3B7 (io), 69 I/O47 3B8 (io), 70 I/O48 3B11 (io), 71 I/O49 3B12 (io), 72 I/O50 3B13 (io), 73 I/O51 3A12 (io), 74 TDO (out), 75 GND (power), 76 GND (power), 77 I/O52 3A7 (io), 78 I/O53 3A6 (io), 79 I/O54 3A5 (io), 80 I/O55 3A4 (io), 81 I/O56 3A3 (io), 82 I/O57 3A2 (io), 83 I/O58 3A1 (io), 84 I/O59 3A0 (io), 85 NC, 86 VCC (power), 87 GND (power), 88 GND (power), 89 VCC (power), 90 I/O60 0A0 (io), 91 I/O61 0A1 (io), 92 I/O62 0A2 (io), 93 I/O63 0A3 (io), 94 I/O64 0A4 (io), 95 I/O65 0A5 (io), 96 I/O66 0A6 (io), 97 I/O67 0A7 (io), 98 NC, 99 GND (power), 100 GND (power)

## M5LV-256/68-5YC
designator U?
High-Density and High-I/O Complex PLD; Published: 23-Sep-2002; LatestRevisionDate: 13-Apr-2006; LatestRevisionNote: IPC-7351 Footprint Added.; DatasheetVersion: Sep-2000; PackageVersion: pkg_32, Aug-2005; PackageReference: PQFP100; Publisher: Altium Limited; PackageDescription: 100-Pin Quad Flat Pack Rectangular 0.65 mm Pitch; Code_IPC: QFP65P1720X2320-100; ComponentLink1Description: Manufacturer Link; ComponentLink1URL: http://www.latticesemi.com/products/mature/index.cfm; ComponentLink2Description: Datasheet; ComponentLink2URL: http://www.latticesemi.com/lit/docs/datasheets/cpld/mach5.pdf
footprint PQFP100_N (QFP, 100-Leads, Body 20x14mm, Pitch 0.65mm, IPC Medium Density)
footprint PQFP100_L (QFP, 100-Leads, Body 20x14mm, Pitch 0.65mm, IPC High Density)
footprint PQFP100_M (QFP, 100-Leads, Body 20x14mm, Pitch 0.65mm, IPC Low Density)
3D model PQFP-100 (100-Pin Quad Flat Pack Rectangular 0.65 mm Pitch)
pins: 1 GND (power), 2 GND (power), 3 TDI (in), 4 I/O0 0A12 (io), 5 I/O1 0B13 (io), 6 I/O2 0B12 (io), 7 I/O3 0B11 (io), 8 I/O4 0B8 (io), 9 I/O5 0B7 (io), 10 I/O6 0B4 (io), 11 I/O7 0B3 (io), 12 I/O8 0B2 (io), 13 I0/CLK0 (in), 14 VCC (power), 15 VCC (power), 16 GND (power), 17 GND (power), 18 I1/CLK1 (in), 19 I/O9 1B2 (io), 20 I/O10 1B3 (io), 21 I/O11 1B4 (io), 22 I/O12 1B7 (io), 23 I/O13 1B8 (io), 24 I/O14 1B11 (io), 25 I/O15 1B12 (io), 26 I/O16 1B13 (io), 27 I/O17 1A12 (io), 28 TCK (in), 29 GND (power), 30 GND (power), 31 I/O18 1A7 (io), 32 I/O19 1A6 (io), 33 I/O20 1A5 (io), 34 I/O21 1A4 (io), 35 I/O22 1A3 (io), 36 I/O23 1A2 (io), 37 I/O24 1A1 (io), 38 I/O25 1A0 (io), 39 VCC (power), 40 GND (power), 41 GND (power), 42 VCC (power), 43 I/O26 2A0 (io), 44 I/O27 2A1 (io), 45 I/O28 2A2 (io), 46 I/O29 2A3 (io), 47 I/O30 2A4 (io), 48 I/O31 2A5 (io), 49 I/O32 2A6 (io), 50 I/O33 2A7 (io), 51 GND (power), 52 GND (power), 53 TMS (in), 54 I/O34 2A12 (io), 55 I/O35 2B13 (io), 56 I/O36 2B12 (io), 57 I/O37 2B11 (io), 58 I/O38 2B8 (io), 59 I/O39 2B7 (io), 60 I/O40 2B4 (io), 61 I/O41 2B3 (io), 62 I/O42 2B2 (io), 63 I2/CLK2 (in), 64 VCC (power), 65 VCC (power), 66 GND (power), 67 GND (power), 68 I3/CLK3 (in), 69 I/O43 3B2 (io), 70 I/O44 3B3 (io), 71 I/O45 3B4 (io), 72 I/O46 3B7 (io), 73 I/O47 3B8 (io), 74 I/O48 3B11 (io), 75 I/O49 3B12 (io), 76 I/O50 3B13 (io), 77 I/O51 3A12 (io), 78 TDO (out), 79 GND (power), 80 GND (power), 81 I/O52 3A7 (io), 82 I/O53 3A6 (io), 83 I/O54 3A5 (io), 84 I/O55 3A4 (io), 85 I/O56 3A3 (io), 86 I/O57 3A2 (io), 87 I/O58 3A1 (io), 88 I/O59 3A0 (io), 89 VCC (power), 90 GND (power), 91 GND (power), 92 VCC (power), 93 I/O60 0A0 (io), 94 I/O61 0A1 (io), 95 I/O62 0A2 (io), 96 I/O63 0A3 (io), 97 I/O64 0A4 (io), 98 I/O65 0A5 (io), 99 I/O66 0A6 (io), 100 I/O67 0A7 (io)